# Altium integrated library Altera MAX V.IntLib: 184 symbols (part 14 of 16)
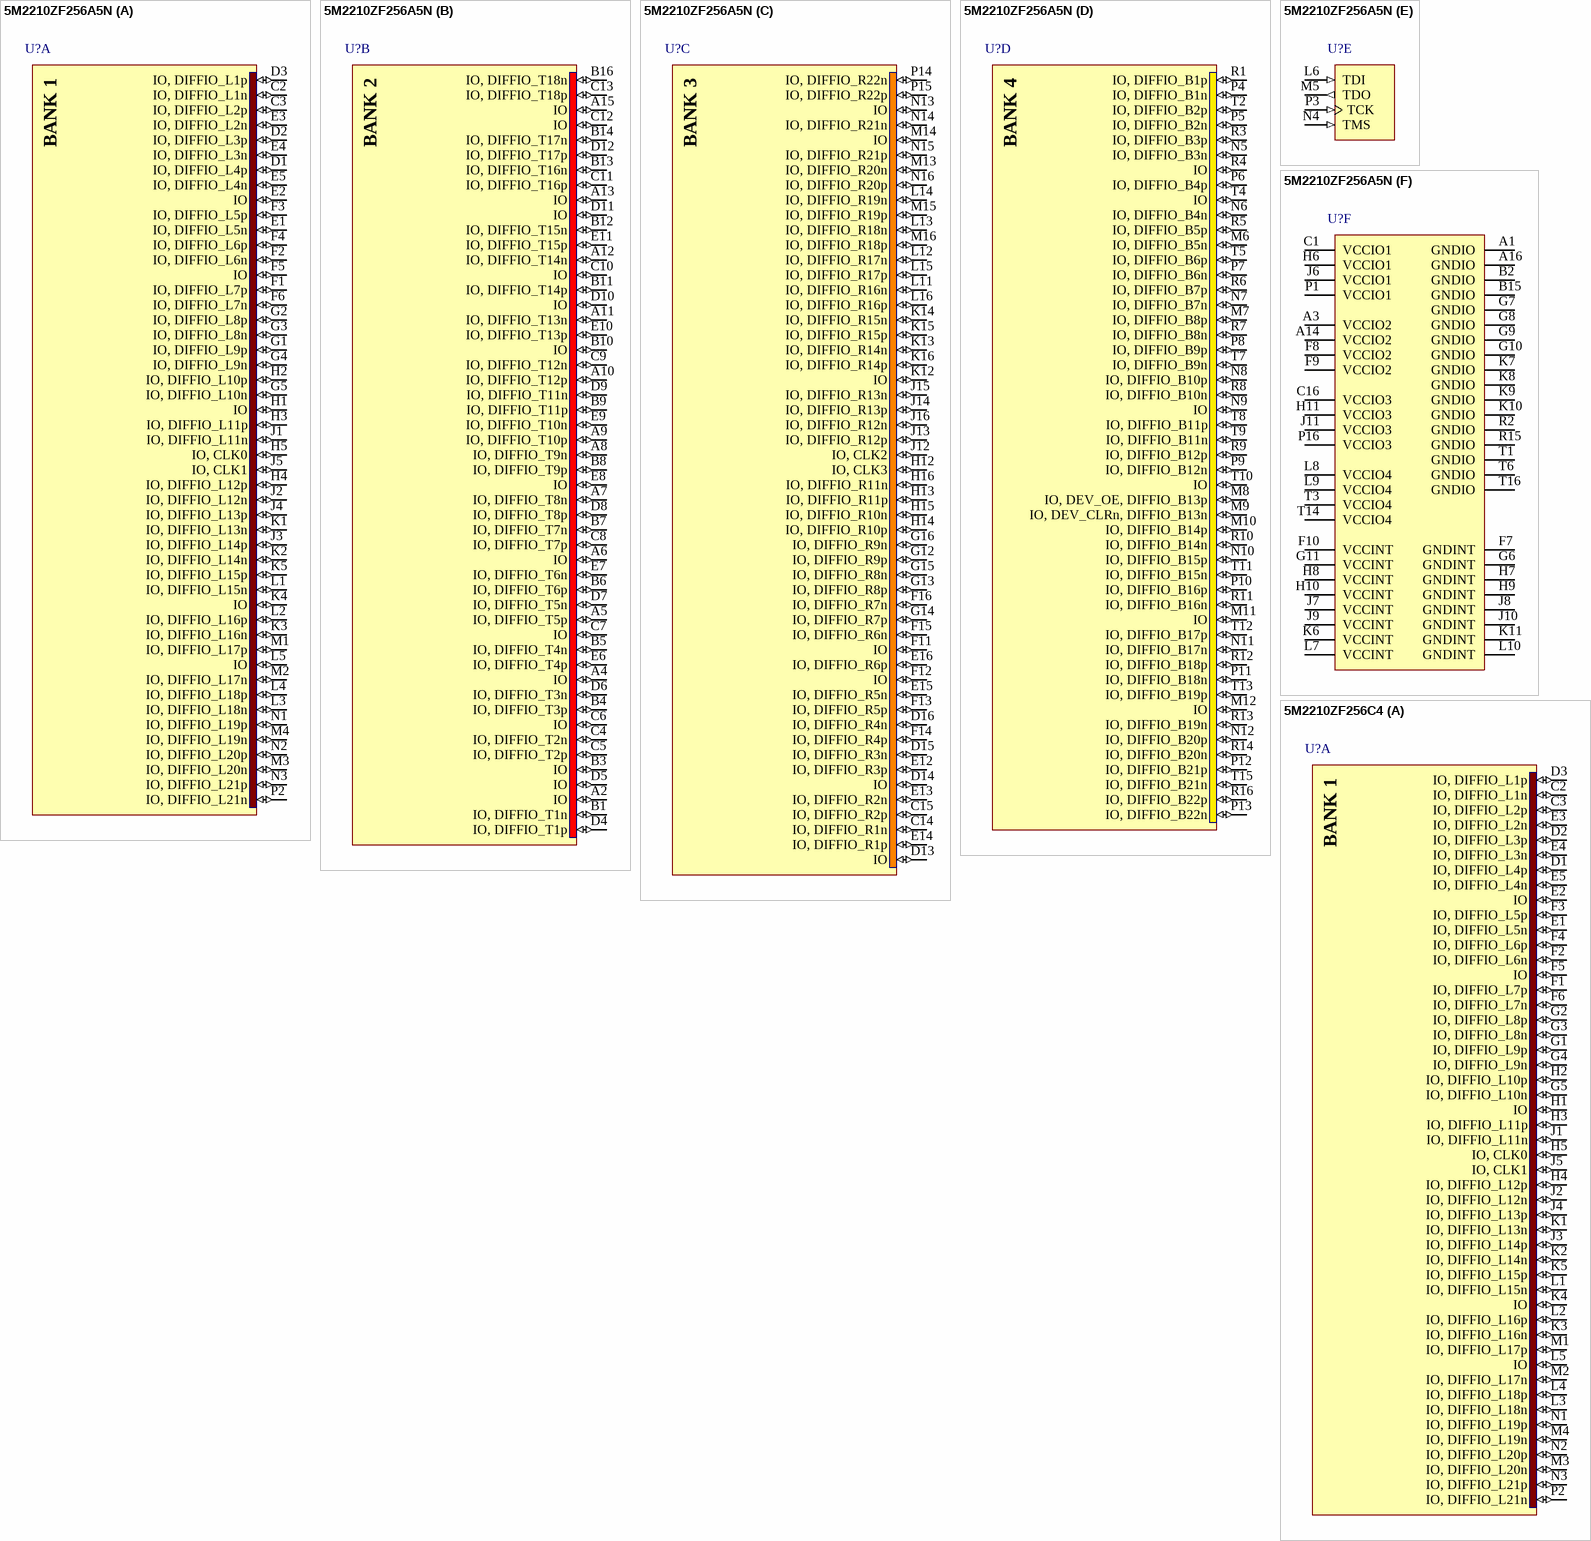
[diagram p90: symbols 5M2210ZF256A5N to 5M2210ZF256C4]

## 5M2210ZF256A5N
designator U?
MAX V 1.8V CPLD, 203 IOs, 2210 Logic Elements, 256-Pin FBGA, Automotive Temperature, Speed Grade 5, Pb-Free; DatasheetVersion: ver1.2, May-2011; PackageVersion: ver2.0, Nov-2011; PackageReference: FBGA256_A-155; PackageDescription: 256-Pin FineLine Ball-Grid Array (FBGA) - Thin - Wire Bond - A:1.55; Code_JEDEC: MO-192-DAF-1; ComponentLink1Description: Manufacturer URL; ComponentLink1URL: http://www.altera.com/; ComponentLink2Description: Datasheet; ComponentLink2URL: http://www.altera.com/literature/hb/max-v/max5_handbook.pdf; ComponentLink3Description: MAX V Device Pin-Out files; ComponentLink3URL: http://www.altera.com/literature/lit-dp.jsp?category=MAX%205&showspreadsheet=y; ComponentLink4Description: Package Specification; ComponentLink4URL: http://www.altera.com/devicepackaging/04R-00230_03.pdf
footprint FBGA256_A-155 (BGA, 256-Leads, Body 17x17mm, Pitch 1mm)
part A pins: C2 IO, DIFFIO_L1n (io), C3 IO, DIFFIO_L2p (io), D1 IO, DIFFIO_L4p (io), D2 IO, DIFFIO_L3p (io), D3 IO, DIFFIO_L1p (io), E1 IO, DIFFIO_L5n (io), E2 IO (io), E3 IO, DIFFIO_L2n (io), E4 IO, DIFFIO_L3n (io), E5 IO, DIFFIO_L4n (io), F1 IO, DIFFIO_L7p (io), F2 IO, DIFFIO_L6n (io), F3 IO, DIFFIO_L5p (io), F4 IO, DIFFIO_L6p (io), F5 IO (io), F6 IO, DIFFIO_L7n (io), G1 IO, DIFFIO_L9p (io), G2 IO, DIFFIO_L8p (io), G3 IO, DIFFIO_L8n (io), G4 IO, DIFFIO_L9n (io), G5 IO, DIFFIO_L10n (io), H1 IO (io), H2 IO, DIFFIO_L10p (io), H3 IO, DIFFIO_L11p (io), H4 IO, DIFFIO_L12p (io), H5 IO, CLK0 (io), J1 IO, DIFFIO_L11n (io), J2 IO, DIFFIO_L12n (io), J3 IO, DIFFIO_L14p (io), J4 IO, DIFFIO_L13p (io), J5 IO, CLK1 (io), K1 IO, DIFFIO_L13n (io), K2 IO, DIFFIO_L14n (io), K3 IO, DIFFIO_L16n (io), K4 IO (io), K5 IO, DIFFIO_L15p (io), L1 IO, DIFFIO_L15n (io), L2 IO, DIFFIO_L16p (io), L3 IO, DIFFIO_L18n (io), L4 IO, DIFFIO_L18p (io), L5 IO (io), M1 IO, DIFFIO_L17p (io), M2 IO, DIFFIO_L17n (io), M3 IO, DIFFIO_L20n (io), M4 IO, DIFFIO_L19n (io), N1 IO, DIFFIO_L19p (io), N2 IO, DIFFIO_L20p (io), N3 IO, DIFFIO_L21p (io), P2 IO, DIFFIO_L21n (io)
part B pins: A2 IO (io), A4 IO (io), A5 IO, DIFFIO_T5p (io), A6 IO (io), A7 IO, DIFFIO_T8n (io), A8 IO, DIFFIO_T9n (io), A9 IO, DIFFIO_T10p (io), A10 IO, DIFFIO_T12p (io), A11 IO, DIFFIO_T13n (io), A12 IO, DIFFIO_T14n (io), A13 IO (io), A15 IO (io), B1 IO, DIFFIO_T1n (io), B3 IO (io), B4 IO, DIFFIO_T3p (io), B5 IO, DIFFIO_T4n (io), B6 IO, DIFFIO_T6p (io), B7 IO, DIFFIO_T7n (io), B8 IO, DIFFIO_T9p (io), B9 IO, DIFFIO_T11p (io), B10 IO (io), B11 IO, DIFFIO_T14p (io), B12 IO, DIFFIO_T15n (io), B13 IO, DIFFIO_T16n (io), B14 IO, DIFFIO_T17n (io), B16 IO, DIFFIO_T18n (io), C4 IO, DIFFIO_T2n (io), C5 IO, DIFFIO_T2p (io), C6 IO (io), C7 IO (io), C8 IO, DIFFIO_T7p (io), C9 IO, DIFFIO_T12n (io), C10 IO (io), C11 IO, DIFFIO_T16p (io), C12 IO (io), C13 IO, DIFFIO_T18p (io), D4 IO, DIFFIO_T1p (io), D5 IO (io), D6 IO, DIFFIO_T3n (io), D7 IO, DIFFIO_T5n (io), D8 IO, DIFFIO_T8p (io), D9 IO, DIFFIO_T11n (io), D10 IO (io), D11 IO (io), D12 IO, DIFFIO_T17p (io), E6 IO, DIFFIO_T4p (io), E7 IO, DIFFIO_T6n (io), E8 IO (io), E9 IO, DIFFIO_T10n (io), E10 IO, DIFFIO_T13p (io), E11 IO, DIFFIO_T15p (io)
part C pins: C14 IO, DIFFIO_R1n (io), C15 IO, DIFFIO_R2p (io), D13 IO (io), D14 IO (io), D15 IO, DIFFIO_R3n (io), D16 IO, DIFFIO_R4n (io), E12 IO, DIFFIO_R3p (io), E13 IO, DIFFIO_R2n (io), E14 IO, DIFFIO_R1p (io), E15 IO, DIFFIO_R5n (io), E16 IO, DIFFIO_R6p (io), F11 IO (io), F12 IO (io), F13 IO, DIFFIO_R5p (io), F14 IO, DIFFIO_R4p (io), F15 IO, DIFFIO_R6n (io), F16 IO, DIFFIO_R7n (io), G12 IO, DIFFIO_R9p (io), G13 IO, DIFFIO_R8p (io), G14 IO, DIFFIO_R7p (io), G15 IO, DIFFIO_R8n (io), G16 IO, DIFFIO_R9n (io), H12 IO, CLK3 (io), H13 IO, DIFFIO_R11p (io), H14 IO, DIFFIO_R10p (io), H15 IO, DIFFIO_R10n (io), H16 IO, DIFFIO_R11n (io), J12 IO, CLK2 (io), J13 IO, DIFFIO_R12p (io), J14 IO, DIFFIO_R13p (io), J15 IO, DIFFIO_R13n (io), J16 IO, DIFFIO_R12n (io), K12 IO (io), K13 IO, DIFFIO_R14n (io), K14 IO, DIFFIO_R15n (io), K15 IO, DIFFIO_R15p (io), K16 IO, DIFFIO_R14p (io), L11 IO, DIFFIO_R16n (io), L12 IO, DIFFIO_R17n (io), L13 IO, DIFFIO_R18n (io), L14 IO, DIFFIO_R19n (io), L15 IO, DIFFIO_R17p (io), L16 IO, DIFFIO_R16p (io), M13 IO, DIFFIO_R20n (io), M14 IO (io), M15 IO, DIFFIO_R19p (io), M16 IO, DIFFIO_R18p (io), N13 IO (io), N14 IO, DIFFIO_R21n (io), N15 IO, DIFFIO_R21p (io), N16 IO, DIFFIO_R20p (io), P14 IO, DIFFIO_R22n (io), P15 IO, DIFFIO_R22p (io)
part D pins: M6 IO, DIFFIO_B5n (io), M7 IO, DIFFIO_B8p (io), M8 IO, DEV_OE, DIFFIO_B13p (io), M9 IO, DEV_CLRn, DIFFIO_B13n (io), M10 IO, DIFFIO_B14p (io), M11 IO (io), M12 IO (io), N5 IO, DIFFIO_B3n (io), N6 IO, DIFFIO_B4n (io), N7 IO, DIFFIO_B7n (io), N8 IO, DIFFIO_B10p (io), N9 IO (io), N10 IO, DIFFIO_B15p (io), N11 IO, DIFFIO_B17n (io), N12 IO, DIFFIO_B20p (io), P4 IO, DIFFIO_B1n (io), P5 IO, DIFFIO_B2n (io), P6 IO, DIFFIO_B4p (io), P7 IO, DIFFIO_B6n (io), P8 IO, DIFFIO_B9p (io), P9 IO, DIFFIO_B12n (io), P10 IO, DIFFIO_B16p (io), P11 IO, DIFFIO_B18n (io), P12 IO, DIFFIO_B21p (io), P13 IO, DIFFIO_B22n (io), R1 IO, DIFFIO_B1p (io), R3 IO, DIFFIO_B3p (io), R4 IO (io), R5 IO, DIFFIO_B5p (io), R6 IO, DIFFIO_B7p (io), R7 IO, DIFFIO_B8n (io), R8 IO, DIFFIO_B10n (io), R9 IO, DIFFIO_B12p (io), R10 IO, DIFFIO_B14n (io), R11 IO, DIFFIO_B16n (io), R12 IO, DIFFIO_B18p (io), R13 IO, DIFFIO_B19n (io), R14 IO, DIFFIO_B20n (io), R16 IO, DIFFIO_B22p (io), T2 IO, DIFFIO_B2p (io), T4 IO (io), T5 IO, DIFFIO_B6p (io), T7 IO, DIFFIO_B9n (io), T8 IO, DIFFIO_B11p (io), T9 IO, DIFFIO_B11n (io), T10 IO (io), T11 IO, DIFFIO_B15n (io), T12 IO, DIFFIO_B17p (io), T13 IO, DIFFIO_B19p (io), T15 IO, DIFFIO_B21n (io)
part E pins: L6 TDI (in), M5 TDO (out), N4 TMS (in), P3 TCK (in)
part F pins: A1 GNDIO (power), A3 VCCIO2 (power), A14 VCCIO2 (power), A16 GNDIO (power), B2 GNDIO (power), B15 GNDIO (power), C1 VCCIO1 (power), C16 VCCIO3 (power), F7 GNDINT (power), F8 VCCIO2 (power), F9 VCCIO2 (power), F10 VCCINT (power), G6 GNDINT (power), G7 GNDIO (power), G8 GNDIO (power), G9 GNDIO (power), G10 GNDIO (power), G11 VCCINT (power), H6 VCCIO1 (power), H7 GNDINT (power), H8 VCCINT (power), H9 GNDINT (power), H10 VCCINT (power), H11 VCCIO3 (power), J6 VCCIO1 (power), J7 VCCINT (power), J8 GNDINT (power), J9 VCCINT (power), J10 GNDINT (power), J11 VCCIO3 (power), K6 VCCINT (power), K7 GNDIO (power), K8 GNDIO (power), K9 GNDIO (power), K10 GNDIO (power), K11 GNDINT (power), L7 VCCINT (power), L8 VCCIO4 (power), L9 VCCIO4 (power), L10 GNDINT (power), P1 VCCIO1 (power), P16 VCCIO3 (power), R2 GNDIO (power), R15 GNDIO (power), T1 GNDIO (power), T3 VCCIO4 (power), T6 GNDIO (power), T14 VCCIO4 (power), T16 GNDIO (power)
part A text: BANK 1
part B text: BANK 2
part C text: BANK 3
part D text: BANK 4

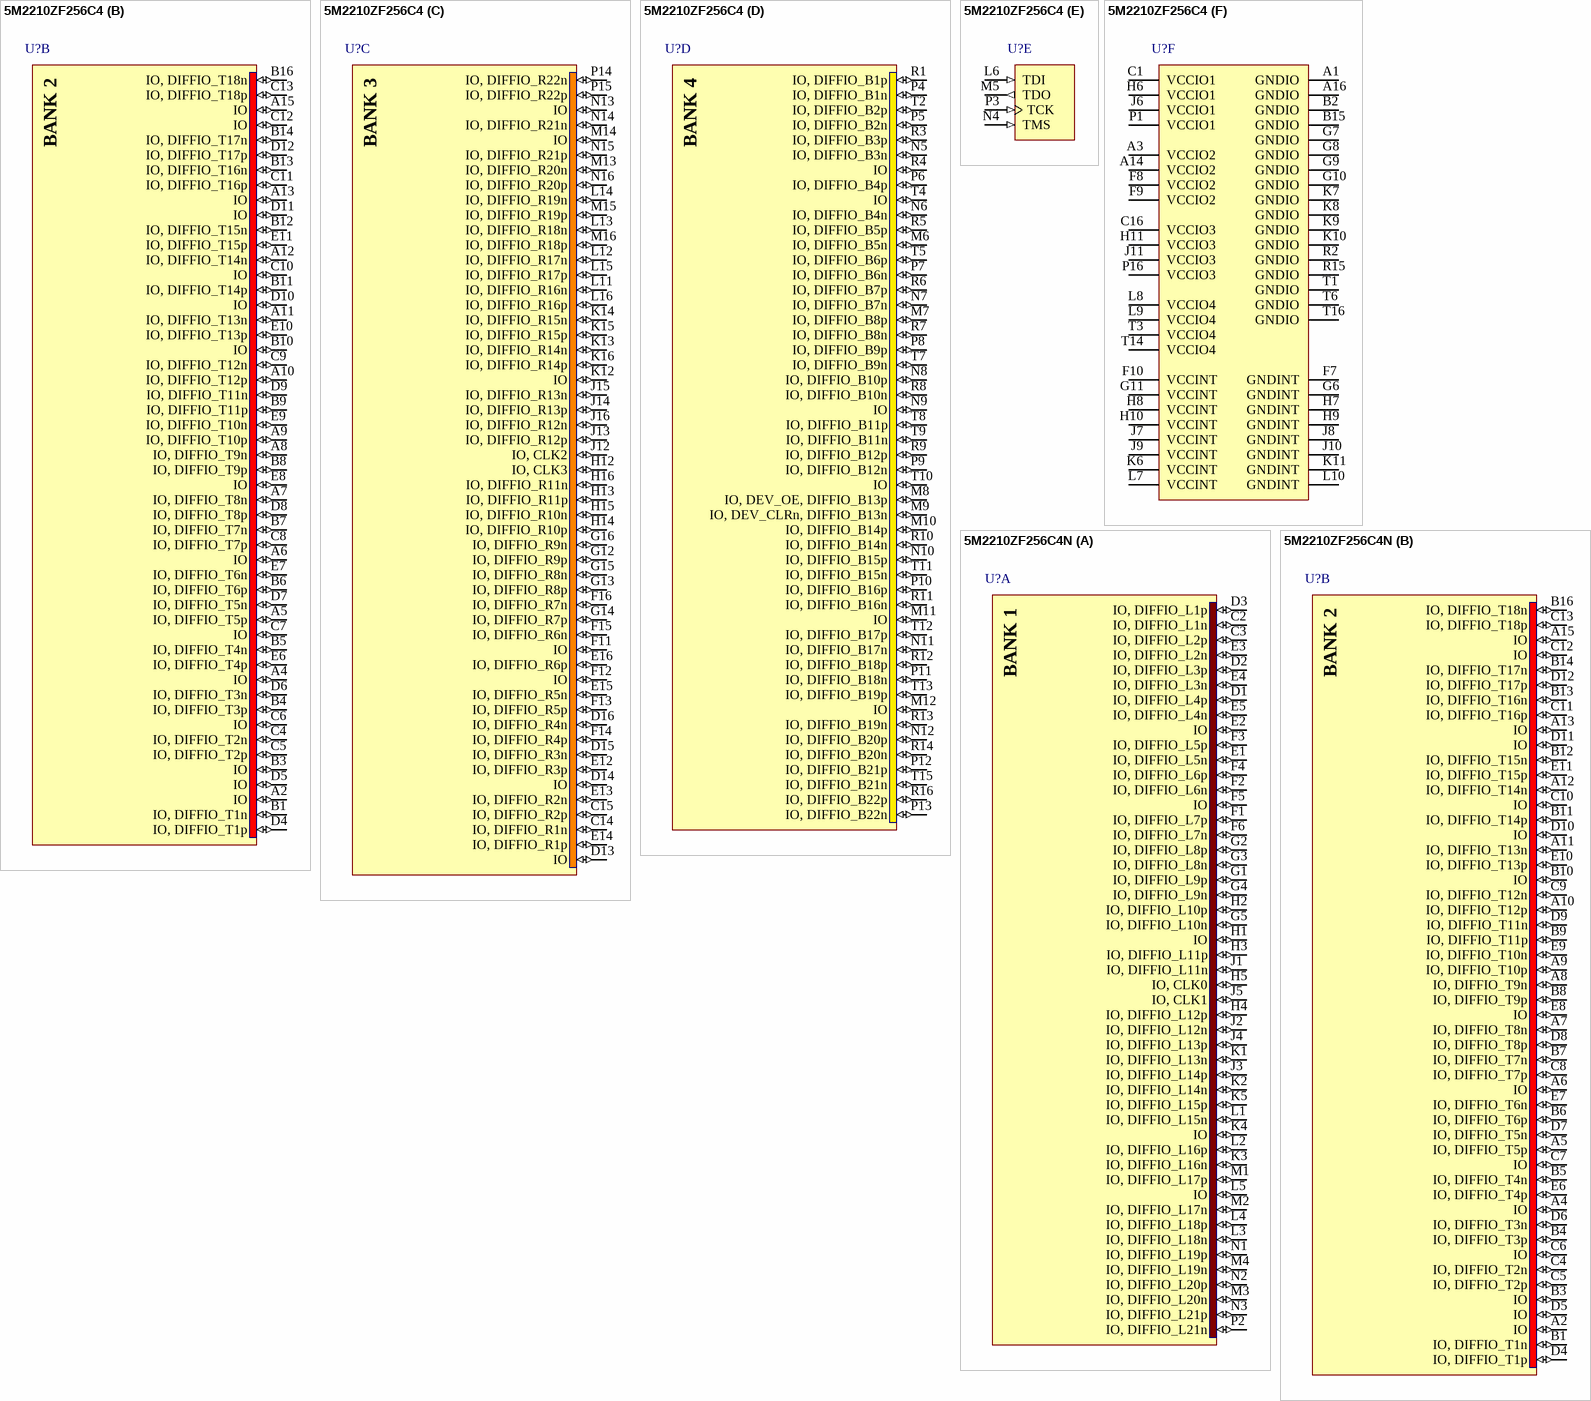
[diagram p64: symbols 5M2210ZF256C4 to 5M2210ZF256C4N]

## 5M2210ZF256C4
designator U?
MAX V 1.8V CPLD, 203 IOs, 2210 Logic Elements, 256-Pin FBGA, Commercial Temperature, Speed Grade 4; DatasheetVersion: ver1.2, May-2011; PackageVersion: ver2.0, Nov-2011; PackageReference: FBGA256_A-155; PackageDescription: 256-Pin FineLine Ball-Grid Array (FBGA) - Thin - Wire Bond - A:1.55; Code_JEDEC: MO-192-DAF-1; ComponentLink1Description: Manufacturer URL; ComponentLink1URL: http://www.altera.com/; ComponentLink2Description: Datasheet; ComponentLink2URL: http://www.altera.com/literature/hb/max-v/max5_handbook.pdf; ComponentLink3Description: MAX V Device Pin-Out files; ComponentLink3URL: http://www.altera.com/literature/lit-dp.jsp?category=MAX%205&showspreadsheet=y; ComponentLink4Description: Package Specification; ComponentLink4URL: http://www.altera.com/devicepackaging/04R-00230_03.pdf
footprint FBGA256_A-155 (BGA, 256-Leads, Body 17x17mm, Pitch 1mm)
part A pins: C2 IO, DIFFIO_L1n (io), C3 IO, DIFFIO_L2p (io), D1 IO, DIFFIO_L4p (io), D2 IO, DIFFIO_L3p (io), D3 IO, DIFFIO_L1p (io), E1 IO, DIFFIO_L5n (io), E2 IO (io), E3 IO, DIFFIO_L2n (io), E4 IO, DIFFIO_L3n (io), E5 IO, DIFFIO_L4n (io), F1 IO, DIFFIO_L7p (io), F2 IO, DIFFIO_L6n (io), F3 IO, DIFFIO_L5p (io), F4 IO, DIFFIO_L6p (io), F5 IO (io), F6 IO, DIFFIO_L7n (io), G1 IO, DIFFIO_L9p (io), G2 IO, DIFFIO_L8p (io), G3 IO, DIFFIO_L8n (io), G4 IO, DIFFIO_L9n (io), G5 IO, DIFFIO_L10n (io), H1 IO (io), H2 IO, DIFFIO_L10p (io), H3 IO, DIFFIO_L11p (io), H4 IO, DIFFIO_L12p (io), H5 IO, CLK0 (io), J1 IO, DIFFIO_L11n (io), J2 IO, DIFFIO_L12n (io), J3 IO, DIFFIO_L14p (io), J4 IO, DIFFIO_L13p (io), J5 IO, CLK1 (io), K1 IO, DIFFIO_L13n (io), K2 IO, DIFFIO_L14n (io), K3 IO, DIFFIO_L16n (io), K4 IO (io), K5 IO, DIFFIO_L15p (io), L1 IO, DIFFIO_L15n (io), L2 IO, DIFFIO_L16p (io), L3 IO, DIFFIO_L18n (io), L4 IO, DIFFIO_L18p (io), L5 IO (io), M1 IO, DIFFIO_L17p (io), M2 IO, DIFFIO_L17n (io), M3 IO, DIFFIO_L20n (io), M4 IO, DIFFIO_L19n (io), N1 IO, DIFFIO_L19p (io), N2 IO, DIFFIO_L20p (io), N3 IO, DIFFIO_L21p (io), P2 IO, DIFFIO_L21n (io)
part B pins: A2 IO (io), A4 IO (io), A5 IO, DIFFIO_T5p (io), A6 IO (io), A7 IO, DIFFIO_T8n (io), A8 IO, DIFFIO_T9n (io), A9 IO, DIFFIO_T10p (io), A10 IO, DIFFIO_T12p (io), A11 IO, DIFFIO_T13n (io), A12 IO, DIFFIO_T14n (io), A13 IO (io), A15 IO (io), B1 IO, DIFFIO_T1n (io), B3 IO (io), B4 IO, DIFFIO_T3p (io), B5 IO, DIFFIO_T4n (io), B6 IO, DIFFIO_T6p (io), B7 IO, DIFFIO_T7n (io), B8 IO, DIFFIO_T9p (io), B9 IO, DIFFIO_T11p (io), B10 IO (io), B11 IO, DIFFIO_T14p (io), B12 IO, DIFFIO_T15n (io), B13 IO, DIFFIO_T16n (io), B14 IO, DIFFIO_T17n (io), B16 IO, DIFFIO_T18n (io), C4 IO, DIFFIO_T2n (io), C5 IO, DIFFIO_T2p (io), C6 IO (io), C7 IO (io), C8 IO, DIFFIO_T7p (io), C9 IO, DIFFIO_T12n (io), C10 IO (io), C11 IO, DIFFIO_T16p (io), C12 IO (io), C13 IO, DIFFIO_T18p (io), D4 IO, DIFFIO_T1p (io), D5 IO (io), D6 IO, DIFFIO_T3n (io), D7 IO, DIFFIO_T5n (io), D8 IO, DIFFIO_T8p (io), D9 IO, DIFFIO_T11n (io), D10 IO (io), D11 IO (io), D12 IO, DIFFIO_T17p (io), E6 IO, DIFFIO_T4p (io), E7 IO, DIFFIO_T6n (io), E8 IO (io), E9 IO, DIFFIO_T10n (io), E10 IO, DIFFIO_T13p (io), E11 IO, DIFFIO_T15p (io)
part C pins: C14 IO, DIFFIO_R1n (io), C15 IO, DIFFIO_R2p (io), D13 IO (io), D14 IO (io), D15 IO, DIFFIO_R3n (io), D16 IO, DIFFIO_R4n (io), E12 IO, DIFFIO_R3p (io), E13 IO, DIFFIO_R2n (io), E14 IO, DIFFIO_R1p (io), E15 IO, DIFFIO_R5n (io), E16 IO, DIFFIO_R6p (io), F11 IO (io), F12 IO (io), F13 IO, DIFFIO_R5p (io), F14 IO, DIFFIO_R4p (io), F15 IO, DIFFIO_R6n (io), F16 IO, DIFFIO_R7n (io), G12 IO, DIFFIO_R9p (io), G13 IO, DIFFIO_R8p (io), G14 IO, DIFFIO_R7p (io), G15 IO, DIFFIO_R8n (io), G16 IO, DIFFIO_R9n (io), H12 IO, CLK3 (io), H13 IO, DIFFIO_R11p (io), H14 IO, DIFFIO_R10p (io), H15 IO, DIFFIO_R10n (io), H16 IO, DIFFIO_R11n (io), J12 IO, CLK2 (io), J13 IO, DIFFIO_R12p (io), J14 IO, DIFFIO_R13p (io), J15 IO, DIFFIO_R13n (io), J16 IO, DIFFIO_R12n (io), K12 IO (io), K13 IO, DIFFIO_R14n (io), K14 IO, DIFFIO_R15n (io), K15 IO, DIFFIO_R15p (io), K16 IO, DIFFIO_R14p (io), L11 IO, DIFFIO_R16n (io), L12 IO, DIFFIO_R17n (io), L13 IO, DIFFIO_R18n (io), L14 IO, DIFFIO_R19n (io), L15 IO, DIFFIO_R17p (io), L16 IO, DIFFIO_R16p (io), M13 IO, DIFFIO_R20n (io), M14 IO (io), M15 IO, DIFFIO_R19p (io), M16 IO, DIFFIO_R18p (io), N13 IO (io), N14 IO, DIFFIO_R21n (io), N15 IO, DIFFIO_R21p (io), N16 IO, DIFFIO_R20p (io), P14 IO, DIFFIO_R22n (io), P15 IO, DIFFIO_R22p (io)
part D pins: M6 IO, DIFFIO_B5n (io), M7 IO, DIFFIO_B8p (io), M8 IO, DEV_OE, DIFFIO_B13p (io), M9 IO, DEV_CLRn, DIFFIO_B13n (io), M10 IO, DIFFIO_B14p (io), M11 IO (io), M12 IO (io), N5 IO, DIFFIO_B3n (io), N6 IO, DIFFIO_B4n (io), N7 IO, DIFFIO_B7n (io), N8 IO, DIFFIO_B10p (io), N9 IO (io), N10 IO, DIFFIO_B15p (io), N11 IO, DIFFIO_B17n (io), N12 IO, DIFFIO_B20p (io), P4 IO, DIFFIO_B1n (io), P5 IO, DIFFIO_B2n (io), P6 IO, DIFFIO_B4p (io), P7 IO, DIFFIO_B6n (io), P8 IO, DIFFIO_B9p (io), P9 IO, DIFFIO_B12n (io), P10 IO, DIFFIO_B16p (io), P11 IO, DIFFIO_B18n (io), P12 IO, DIFFIO_B21p (io), P13 IO, DIFFIO_B22n (io), R1 IO, DIFFIO_B1p (io), R3 IO, DIFFIO_B3p (io), R4 IO (io), R5 IO, DIFFIO_B5p (io), R6 IO, DIFFIO_B7p (io), R7 IO, DIFFIO_B8n (io), R8 IO, DIFFIO_B10n (io), R9 IO, DIFFIO_B12p (io), R10 IO, DIFFIO_B14n (io), R11 IO, DIFFIO_B16n (io), R12 IO, DIFFIO_B18p (io), R13 IO, DIFFIO_B19n (io), R14 IO, DIFFIO_B20n (io), R16 IO, DIFFIO_B22p (io), T2 IO, DIFFIO_B2p (io), T4 IO (io), T5 IO, DIFFIO_B6p (io), T7 IO, DIFFIO_B9n (io), T8 IO, DIFFIO_B11p (io), T9 IO, DIFFIO_B11n (io), T10 IO (io), T11 IO, DIFFIO_B15n (io), T12 IO, DIFFIO_B17p (io), T13 IO, DIFFIO_B19p (io), T15 IO, DIFFIO_B21n (io)
part E pins: L6 TDI (in), M5 TDO (out), N4 TMS (in), P3 TCK (in)
part F pins: A1 GNDIO (power), A3 VCCIO2 (power), A14 VCCIO2 (power), A16 GNDIO (power), B2 GNDIO (power), B15 GNDIO (power), C1 VCCIO1 (power), C16 VCCIO3 (power), F7 GNDINT (power), F8 VCCIO2 (power), F9 VCCIO2 (power), F10 VCCINT (power), G6 GNDINT (power), G7 GNDIO (power), G8 GNDIO (power), G9 GNDIO (power), G10 GNDIO (power), G11 VCCINT (power), H6 VCCIO1 (power), H7 GNDINT (power), H8 VCCINT (power), H9 GNDINT (power), H10 VCCINT (power), H11 VCCIO3 (power), J6 VCCIO1 (power), J7 VCCINT (power), J8 GNDINT (power), J9 VCCINT (power), J10 GNDINT (power), J11 VCCIO3 (power), K6 VCCINT (power), K7 GNDIO (power), K8 GNDIO (power), K9 GNDIO (power), K10 GNDIO (power), K11 GNDINT (power), L7 VCCINT (power), L8 VCCIO4 (power), L9 VCCIO4 (power), L10 GNDINT (power), P1 VCCIO1 (power), P16 VCCIO3 (power), R2 GNDIO (power), R15 GNDIO (power), T1 GNDIO (power), T3 VCCIO4 (power), T6 GNDIO (power), T14 VCCIO4 (power), T16 GNDIO (power)
part A text: BANK 1
part B text: BANK 2
part C text: BANK 3
part D text: BANK 4

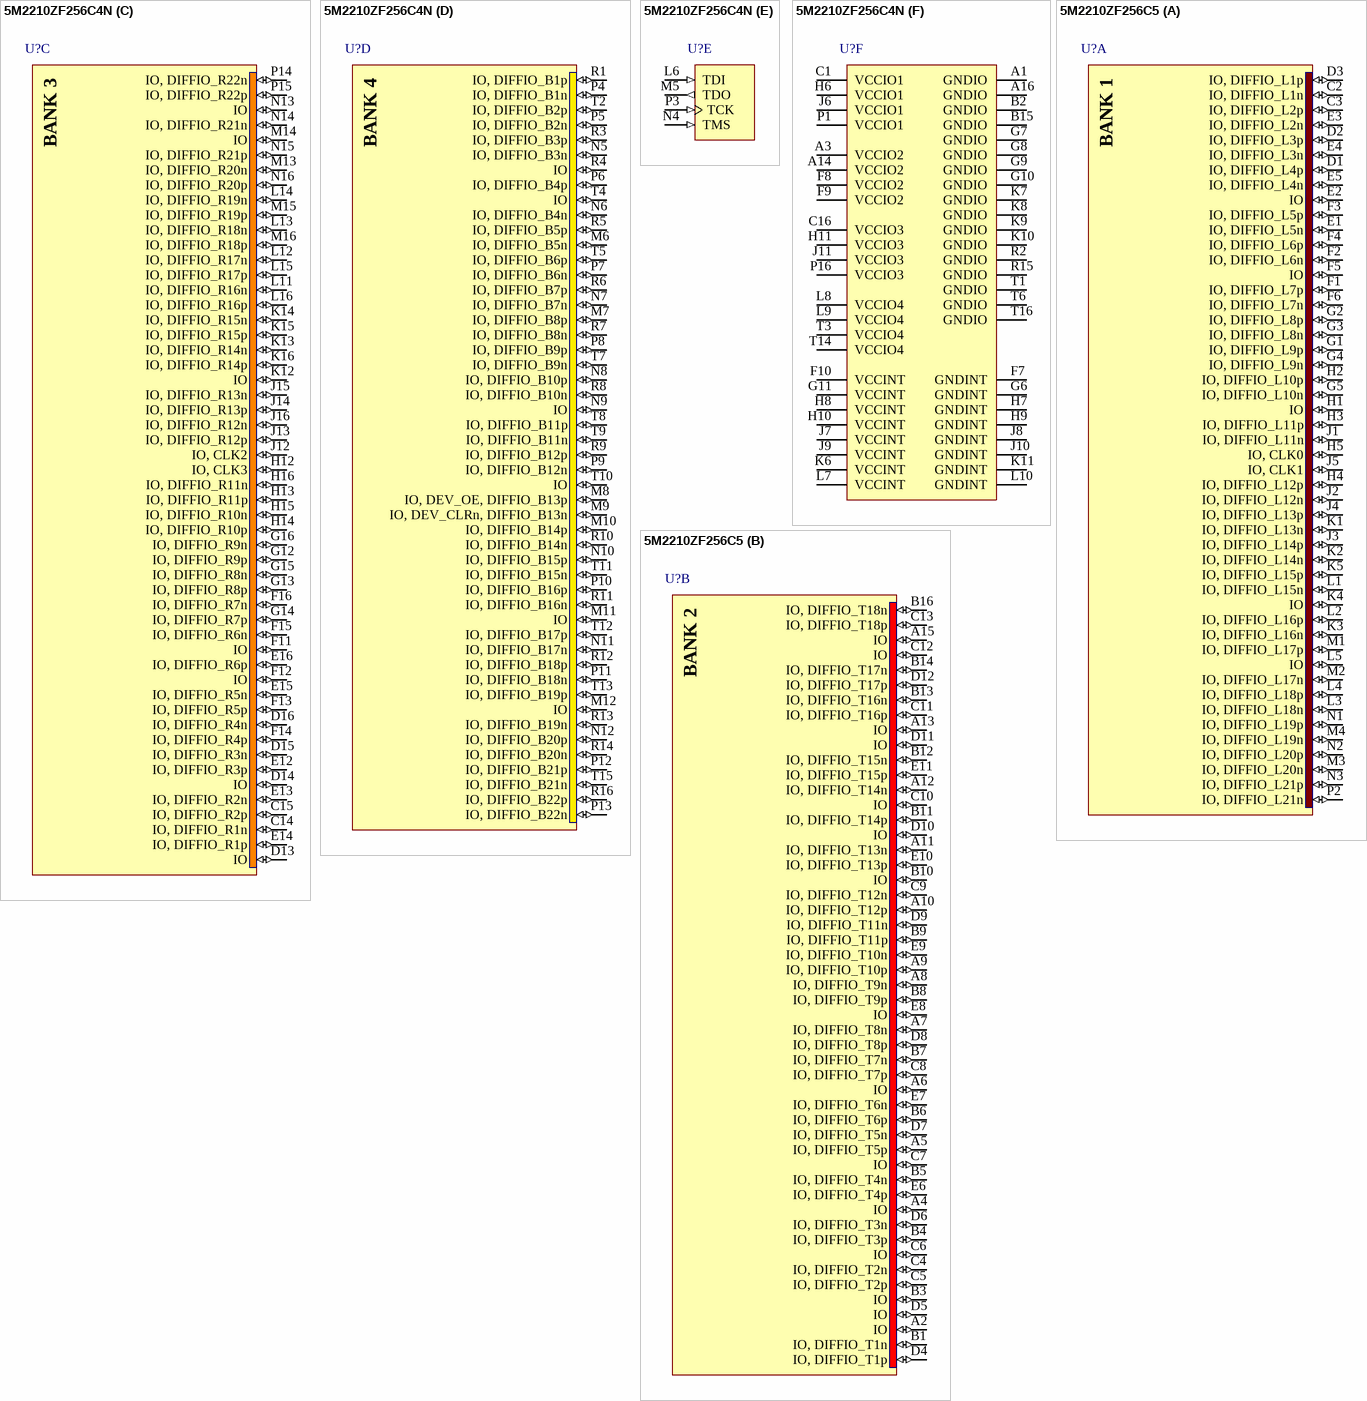
[diagram p65: symbols 5M2210ZF256C4N to 5M2210ZF256C5]

## 5M2210ZF256C4N
designator U?
MAX V 1.8V CPLD, 203 IOs, 2210 Logic Elements, 256-Pin FBGA, Commercial Temperature, Speed Grade 4, Pb-Free; DatasheetVersion: ver1.2, May-2011; PackageVersion: ver2.0, Nov-2011; PackageReference: FBGA256_A-155; PackageDescription: 256-Pin FineLine Ball-Grid Array (FBGA) - Thin - Wire Bond - A:1.55; Code_JEDEC: MO-192-DAF-1; ComponentLink1Description: Manufacturer URL; ComponentLink1URL: http://www.altera.com/; ComponentLink2Description: Datasheet; ComponentLink2URL: http://www.altera.com/literature/hb/max-v/max5_handbook.pdf; ComponentLink3Description: MAX V Device Pin-Out files; ComponentLink3URL: http://www.altera.com/literature/lit-dp.jsp?category=MAX%205&showspreadsheet=y; ComponentLink4Description: Package Specification; ComponentLink4URL: http://www.altera.com/devicepackaging/04R-00230_03.pdf
footprint FBGA256_A-155 (BGA, 256-Leads, Body 17x17mm, Pitch 1mm)
part A pins: C2 IO, DIFFIO_L1n (io), C3 IO, DIFFIO_L2p (io), D1 IO, DIFFIO_L4p (io), D2 IO, DIFFIO_L3p (io), D3 IO, DIFFIO_L1p (io), E1 IO, DIFFIO_L5n (io), E2 IO (io), E3 IO, DIFFIO_L2n (io), E4 IO, DIFFIO_L3n (io), E5 IO, DIFFIO_L4n (io), F1 IO, DIFFIO_L7p (io), F2 IO, DIFFIO_L6n (io), F3 IO, DIFFIO_L5p (io), F4 IO, DIFFIO_L6p (io), F5 IO (io), F6 IO, DIFFIO_L7n (io), G1 IO, DIFFIO_L9p (io), G2 IO, DIFFIO_L8p (io), G3 IO, DIFFIO_L8n (io), G4 IO, DIFFIO_L9n (io), G5 IO, DIFFIO_L10n (io), H1 IO (io), H2 IO, DIFFIO_L10p (io), H3 IO, DIFFIO_L11p (io), H4 IO, DIFFIO_L12p (io), H5 IO, CLK0 (io), J1 IO, DIFFIO_L11n (io), J2 IO, DIFFIO_L12n (io), J3 IO, DIFFIO_L14p (io), J4 IO, DIFFIO_L13p (io), J5 IO, CLK1 (io), K1 IO, DIFFIO_L13n (io), K2 IO, DIFFIO_L14n (io), K3 IO, DIFFIO_L16n (io), K4 IO (io), K5 IO, DIFFIO_L15p (io), L1 IO, DIFFIO_L15n (io), L2 IO, DIFFIO_L16p (io), L3 IO, DIFFIO_L18n (io), L4 IO, DIFFIO_L18p (io), L5 IO (io), M1 IO, DIFFIO_L17p (io), M2 IO, DIFFIO_L17n (io), M3 IO, DIFFIO_L20n (io), M4 IO, DIFFIO_L19n (io), N1 IO, DIFFIO_L19p (io), N2 IO, DIFFIO_L20p (io), N3 IO, DIFFIO_L21p (io), P2 IO, DIFFIO_L21n (io)
part B pins: A2 IO (io), A4 IO (io), A5 IO, DIFFIO_T5p (io), A6 IO (io), A7 IO, DIFFIO_T8n (io), A8 IO, DIFFIO_T9n (io), A9 IO, DIFFIO_T10p (io), A10 IO, DIFFIO_T12p (io), A11 IO, DIFFIO_T13n (io), A12 IO, DIFFIO_T14n (io), A13 IO (io), A15 IO (io), B1 IO, DIFFIO_T1n (io), B3 IO (io), B4 IO, DIFFIO_T3p (io), B5 IO, DIFFIO_T4n (io), B6 IO, DIFFIO_T6p (io), B7 IO, DIFFIO_T7n (io), B8 IO, DIFFIO_T9p (io), B9 IO, DIFFIO_T11p (io), B10 IO (io), B11 IO, DIFFIO_T14p (io), B12 IO, DIFFIO_T15n (io), B13 IO, DIFFIO_T16n (io), B14 IO, DIFFIO_T17n (io), B16 IO, DIFFIO_T18n (io), C4 IO, DIFFIO_T2n (io), C5 IO, DIFFIO_T2p (io), C6 IO (io), C7 IO (io), C8 IO, DIFFIO_T7p (io), C9 IO, DIFFIO_T12n (io), C10 IO (io), C11 IO, DIFFIO_T16p (io), C12 IO (io), C13 IO, DIFFIO_T18p (io), D4 IO, DIFFIO_T1p (io), D5 IO (io), D6 IO, DIFFIO_T3n (io), D7 IO, DIFFIO_T5n (io), D8 IO, DIFFIO_T8p (io), D9 IO, DIFFIO_T11n (io), D10 IO (io), D11 IO (io), D12 IO, DIFFIO_T17p (io), E6 IO, DIFFIO_T4p (io), E7 IO, DIFFIO_T6n (io), E8 IO (io), E9 IO, DIFFIO_T10n (io), E10 IO, DIFFIO_T13p (io), E11 IO, DIFFIO_T15p (io)
part C pins: C14 IO, DIFFIO_R1n (io), C15 IO, DIFFIO_R2p (io), D13 IO (io), D14 IO (io), D15 IO, DIFFIO_R3n (io), D16 IO, DIFFIO_R4n (io), E12 IO, DIFFIO_R3p (io), E13 IO, DIFFIO_R2n (io), E14 IO, DIFFIO_R1p (io), E15 IO, DIFFIO_R5n (io), E16 IO, DIFFIO_R6p (io), F11 IO (io), F12 IO (io), F13 IO, DIFFIO_R5p (io), F14 IO, DIFFIO_R4p (io), F15 IO, DIFFIO_R6n (io), F16 IO, DIFFIO_R7n (io), G12 IO, DIFFIO_R9p (io), G13 IO, DIFFIO_R8p (io), G14 IO, DIFFIO_R7p (io), G15 IO, DIFFIO_R8n (io), G16 IO, DIFFIO_R9n (io), H12 IO, CLK3 (io), H13 IO, DIFFIO_R11p (io), H14 IO, DIFFIO_R10p (io), H15 IO, DIFFIO_R10n (io), H16 IO, DIFFIO_R11n (io), J12 IO, CLK2 (io), J13 IO, DIFFIO_R12p (io), J14 IO, DIFFIO_R13p (io), J15 IO, DIFFIO_R13n (io), J16 IO, DIFFIO_R12n (io), K12 IO (io), K13 IO, DIFFIO_R14n (io), K14 IO, DIFFIO_R15n (io), K15 IO, DIFFIO_R15p (io), K16 IO, DIFFIO_R14p (io), L11 IO, DIFFIO_R16n (io), L12 IO, DIFFIO_R17n (io), L13 IO, DIFFIO_R18n (io), L14 IO, DIFFIO_R19n (io), L15 IO, DIFFIO_R17p (io), L16 IO, DIFFIO_R16p (io), M13 IO, DIFFIO_R20n (io), M14 IO (io), M15 IO, DIFFIO_R19p (io), M16 IO, DIFFIO_R18p (io), N13 IO (io), N14 IO, DIFFIO_R21n (io), N15 IO, DIFFIO_R21p (io), N16 IO, DIFFIO_R20p (io), P14 IO, DIFFIO_R22n (io), P15 IO, DIFFIO_R22p (io)
part D pins: M6 IO, DIFFIO_B5n (io), M7 IO, DIFFIO_B8p (io), M8 IO, DEV_OE, DIFFIO_B13p (io), M9 IO, DEV_CLRn, DIFFIO_B13n (io), M10 IO, DIFFIO_B14p (io), M11 IO (io), M12 IO (io), N5 IO, DIFFIO_B3n (io), N6 IO, DIFFIO_B4n (io), N7 IO, DIFFIO_B7n (io), N8 IO, DIFFIO_B10p (io), N9 IO (io), N10 IO, DIFFIO_B15p (io), N11 IO, DIFFIO_B17n (io), N12 IO, DIFFIO_B20p (io), P4 IO, DIFFIO_B1n (io), P5 IO, DIFFIO_B2n (io), P6 IO, DIFFIO_B4p (io), P7 IO, DIFFIO_B6n (io), P8 IO, DIFFIO_B9p (io), P9 IO, DIFFIO_B12n (io), P10 IO, DIFFIO_B16p (io), P11 IO, DIFFIO_B18n (io), P12 IO, DIFFIO_B21p (io), P13 IO, DIFFIO_B22n (io), R1 IO, DIFFIO_B1p (io), R3 IO, DIFFIO_B3p (io), R4 IO (io), R5 IO, DIFFIO_B5p (io), R6 IO, DIFFIO_B7p (io), R7 IO, DIFFIO_B8n (io), R8 IO, DIFFIO_B10n (io), R9 IO, DIFFIO_B12p (io), R10 IO, DIFFIO_B14n (io), R11 IO, DIFFIO_B16n (io), R12 IO, DIFFIO_B18p (io), R13 IO, DIFFIO_B19n (io), R14 IO, DIFFIO_B20n (io), R16 IO, DIFFIO_B22p (io), T2 IO, DIFFIO_B2p (io), T4 IO (io), T5 IO, DIFFIO_B6p (io), T7 IO, DIFFIO_B9n (io), T8 IO, DIFFIO_B11p (io), T9 IO, DIFFIO_B11n (io), T10 IO (io), T11 IO, DIFFIO_B15n (io), T12 IO, DIFFIO_B17p (io), T13 IO, DIFFIO_B19p (io), T15 IO, DIFFIO_B21n (io)
part E pins: L6 TDI (in), M5 TDO (out), N4 TMS (in), P3 TCK (in)
part F pins: A1 GNDIO (power), A3 VCCIO2 (power), A14 VCCIO2 (power), A16 GNDIO (power), B2 GNDIO (power), B15 GNDIO (power), C1 VCCIO1 (power), C16 VCCIO3 (power), F7 GNDINT (power), F8 VCCIO2 (power), F9 VCCIO2 (power), F10 VCCINT (power), G6 GNDINT (power), G7 GNDIO (power), G8 GNDIO (power), G9 GNDIO (power), G10 GNDIO (power), G11 VCCINT (power), H6 VCCIO1 (power), H7 GNDINT (power), H8 VCCINT (power), H9 GNDINT (power), H10 VCCINT (power), H11 VCCIO3 (power), J6 VCCIO1 (power), J7 VCCINT (power), J8 GNDINT (power), J9 VCCINT (power), J10 GNDINT (power), J11 VCCIO3 (power), K6 VCCINT (power), K7 GNDIO (power), K8 GNDIO (power), K9 GNDIO (power), K10 GNDIO (power), K11 GNDINT (power), L7 VCCINT (power), L8 VCCIO4 (power), L9 VCCIO4 (power), L10 GNDINT (power), P1 VCCIO1 (power), P16 VCCIO3 (power), R2 GNDIO (power), R15 GNDIO (power), T1 GNDIO (power), T3 VCCIO4 (power), T6 GNDIO (power), T14 VCCIO4 (power), T16 GNDIO (power)
part A text: BANK 1
part B text: BANK 2
part C text: BANK 3
part D text: BANK 4

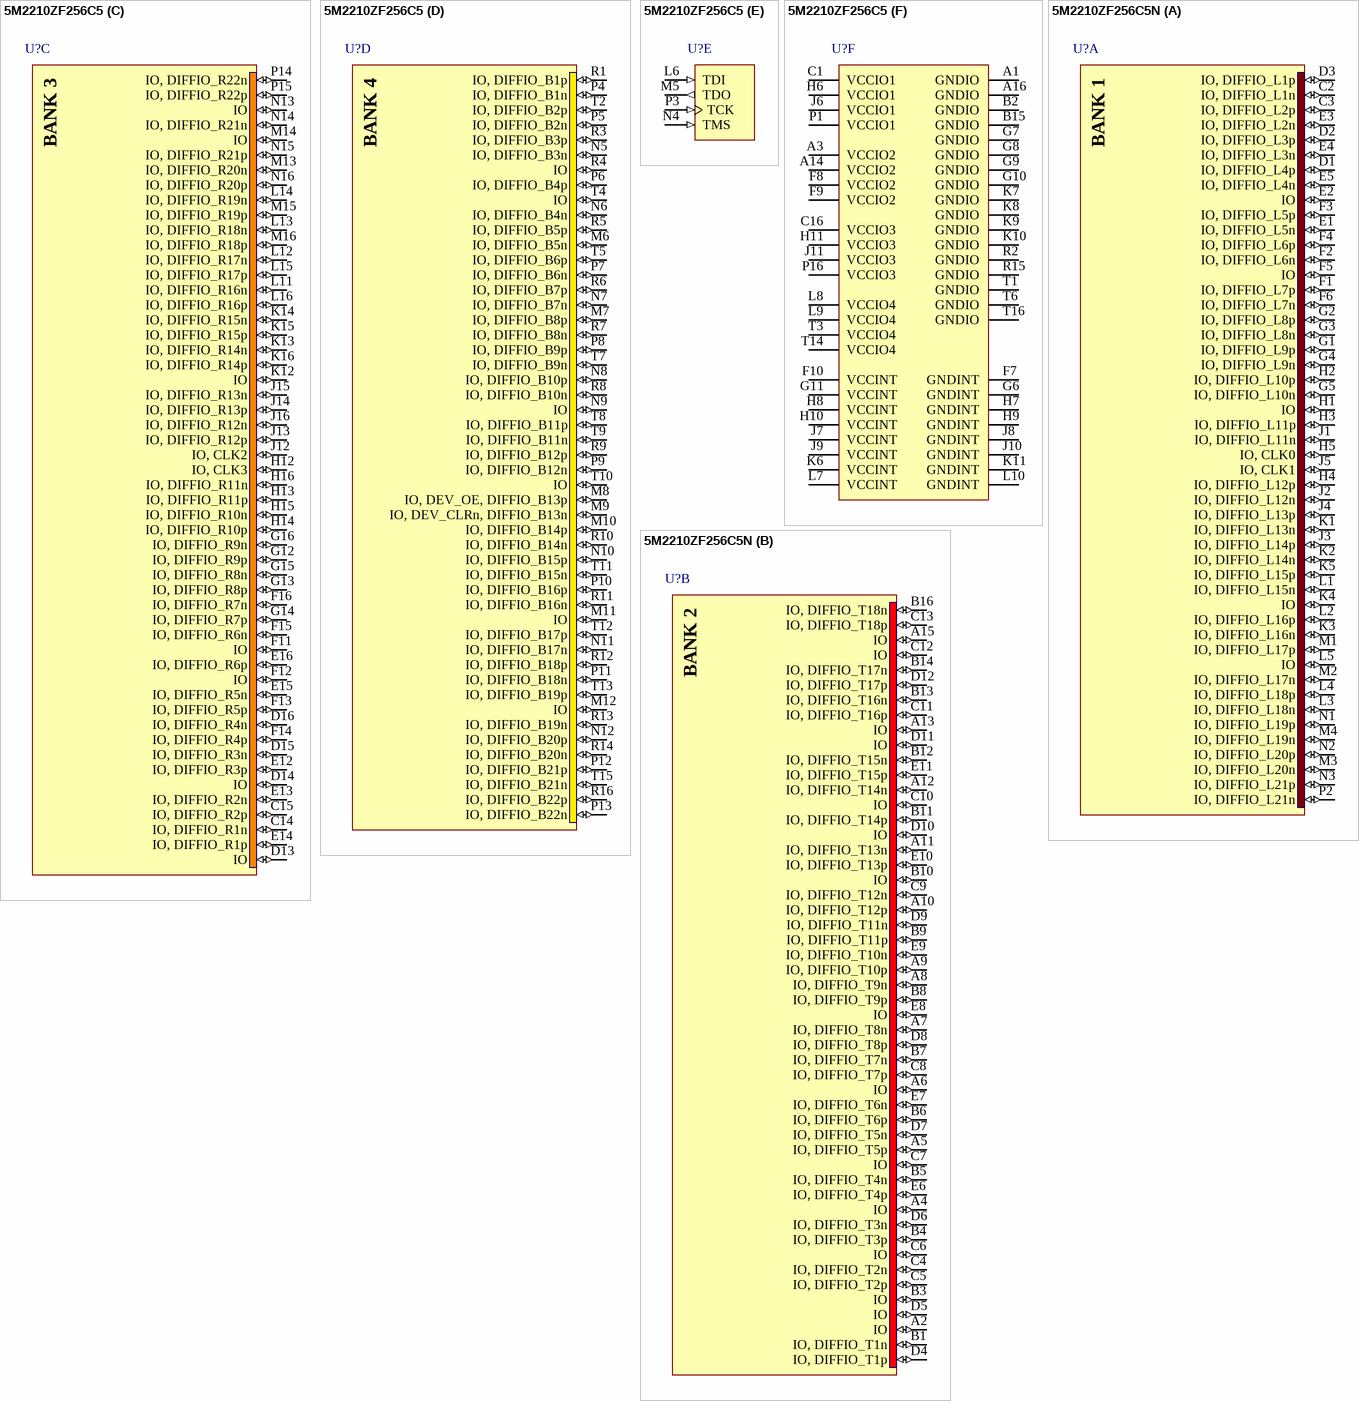
[diagram p66: symbols 5M2210ZF256C5 to 5M2210ZF256C5N]

## 5M2210ZF256C5
designator U?
MAX V 1.8V CPLD, 203 IOs, 2210 Logic Elements, 256-Pin FBGA, Commercial Temperature, Speed Grade 5; DatasheetVersion: ver1.2, May-2011; PackageVersion: ver2.0, Nov-2011; PackageReference: FBGA256_A-155; PackageDescription: 256-Pin FineLine Ball-Grid Array (FBGA) - Thin - Wire Bond - A:1.55; Code_JEDEC: MO-192-DAF-1; ComponentLink1Description: Manufacturer URL; ComponentLink1URL: http://www.altera.com/; ComponentLink2Description: Datasheet; ComponentLink2URL: http://www.altera.com/literature/hb/max-v/max5_handbook.pdf; ComponentLink3Description: MAX V Device Pin-Out files; ComponentLink3URL: http://www.altera.com/literature/lit-dp.jsp?category=MAX%205&showspreadsheet=y; ComponentLink4Description: Package Specification; ComponentLink4URL: http://www.altera.com/devicepackaging/04R-00230_03.pdf
footprint FBGA256_A-155 (BGA, 256-Leads, Body 17x17mm, Pitch 1mm)
part A pins: C2 IO, DIFFIO_L1n (io), C3 IO, DIFFIO_L2p (io), D1 IO, DIFFIO_L4p (io), D2 IO, DIFFIO_L3p (io), D3 IO, DIFFIO_L1p (io), E1 IO, DIFFIO_L5n (io), E2 IO (io), E3 IO, DIFFIO_L2n (io), E4 IO, DIFFIO_L3n (io), E5 IO, DIFFIO_L4n (io), F1 IO, DIFFIO_L7p (io), F2 IO, DIFFIO_L6n (io), F3 IO, DIFFIO_L5p (io), F4 IO, DIFFIO_L6p (io), F5 IO (io), F6 IO, DIFFIO_L7n (io), G1 IO, DIFFIO_L9p (io), G2 IO, DIFFIO_L8p (io), G3 IO, DIFFIO_L8n (io), G4 IO, DIFFIO_L9n (io), G5 IO, DIFFIO_L10n (io), H1 IO (io), H2 IO, DIFFIO_L10p (io), H3 IO, DIFFIO_L11p (io), H4 IO, DIFFIO_L12p (io), H5 IO, CLK0 (io), J1 IO, DIFFIO_L11n (io), J2 IO, DIFFIO_L12n (io), J3 IO, DIFFIO_L14p (io), J4 IO, DIFFIO_L13p (io), J5 IO, CLK1 (io), K1 IO, DIFFIO_L13n (io), K2 IO, DIFFIO_L14n (io), K3 IO, DIFFIO_L16n (io), K4 IO (io), K5 IO, DIFFIO_L15p (io), L1 IO, DIFFIO_L15n (io), L2 IO, DIFFIO_L16p (io), L3 IO, DIFFIO_L18n (io), L4 IO, DIFFIO_L18p (io), L5 IO (io), M1 IO, DIFFIO_L17p (io), M2 IO, DIFFIO_L17n (io), M3 IO, DIFFIO_L20n (io), M4 IO, DIFFIO_L19n (io), N1 IO, DIFFIO_L19p (io), N2 IO, DIFFIO_L20p (io), N3 IO, DIFFIO_L21p (io), P2 IO, DIFFIO_L21n (io)
part B pins: A2 IO (io), A4 IO (io), A5 IO, DIFFIO_T5p (io), A6 IO (io), A7 IO, DIFFIO_T8n (io), A8 IO, DIFFIO_T9n (io), A9 IO, DIFFIO_T10p (io), A10 IO, DIFFIO_T12p (io), A11 IO, DIFFIO_T13n (io), A12 IO, DIFFIO_T14n (io), A13 IO (io), A15 IO (io), B1 IO, DIFFIO_T1n (io), B3 IO (io), B4 IO, DIFFIO_T3p (io), B5 IO, DIFFIO_T4n (io), B6 IO, DIFFIO_T6p (io), B7 IO, DIFFIO_T7n (io), B8 IO, DIFFIO_T9p (io), B9 IO, DIFFIO_T11p (io), B10 IO (io), B11 IO, DIFFIO_T14p (io), B12 IO, DIFFIO_T15n (io), B13 IO, DIFFIO_T16n (io), B14 IO, DIFFIO_T17n (io), B16 IO, DIFFIO_T18n (io), C4 IO, DIFFIO_T2n (io), C5 IO, DIFFIO_T2p (io), C6 IO (io), C7 IO (io), C8 IO, DIFFIO_T7p (io), C9 IO, DIFFIO_T12n (io), C10 IO (io), C11 IO, DIFFIO_T16p (io), C12 IO (io), C13 IO, DIFFIO_T18p (io), D4 IO, DIFFIO_T1p (io), D5 IO (io), D6 IO, DIFFIO_T3n (io), D7 IO, DIFFIO_T5n (io), D8 IO, DIFFIO_T8p (io), D9 IO, DIFFIO_T11n (io), D10 IO (io), D11 IO (io), D12 IO, DIFFIO_T17p (io), E6 IO, DIFFIO_T4p (io), E7 IO, DIFFIO_T6n (io), E8 IO (io), E9 IO, DIFFIO_T10n (io), E10 IO, DIFFIO_T13p (io), E11 IO, DIFFIO_T15p (io)
part C pins: C14 IO, DIFFIO_R1n (io), C15 IO, DIFFIO_R2p (io), D13 IO (io), D14 IO (io), D15 IO, DIFFIO_R3n (io), D16 IO, DIFFIO_R4n (io), E12 IO, DIFFIO_R3p (io), E13 IO, DIFFIO_R2n (io), E14 IO, DIFFIO_R1p (io), E15 IO, DIFFIO_R5n (io), E16 IO, DIFFIO_R6p (io), F11 IO (io), F12 IO (io), F13 IO, DIFFIO_R5p (io), F14 IO, DIFFIO_R4p (io), F15 IO, DIFFIO_R6n (io), F16 IO, DIFFIO_R7n (io), G12 IO, DIFFIO_R9p (io), G13 IO, DIFFIO_R8p (io), G14 IO, DIFFIO_R7p (io), G15 IO, DIFFIO_R8n (io), G16 IO, DIFFIO_R9n (io), H12 IO, CLK3 (io), H13 IO, DIFFIO_R11p (io), H14 IO, DIFFIO_R10p (io), H15 IO, DIFFIO_R10n (io), H16 IO, DIFFIO_R11n (io), J12 IO, CLK2 (io), J13 IO, DIFFIO_R12p (io), J14 IO, DIFFIO_R13p (io), J15 IO, DIFFIO_R13n (io), J16 IO, DIFFIO_R12n (io), K12 IO (io), K13 IO, DIFFIO_R14n (io), K14 IO, DIFFIO_R15n (io), K15 IO, DIFFIO_R15p (io), K16 IO, DIFFIO_R14p (io), L11 IO, DIFFIO_R16n (io), L12 IO, DIFFIO_R17n (io), L13 IO, DIFFIO_R18n (io), L14 IO, DIFFIO_R19n (io), L15 IO, DIFFIO_R17p (io), L16 IO, DIFFIO_R16p (io), M13 IO, DIFFIO_R20n (io), M14 IO (io), M15 IO, DIFFIO_R19p (io), M16 IO, DIFFIO_R18p (io), N13 IO (io), N14 IO, DIFFIO_R21n (io), N15 IO, DIFFIO_R21p (io), N16 IO, DIFFIO_R20p (io), P14 IO, DIFFIO_R22n (io), P15 IO, DIFFIO_R22p (io)
part D pins: M6 IO, DIFFIO_B5n (io), M7 IO, DIFFIO_B8p (io), M8 IO, DEV_OE, DIFFIO_B13p (io), M9 IO, DEV_CLRn, DIFFIO_B13n (io), M10 IO, DIFFIO_B14p (io), M11 IO (io), M12 IO (io), N5 IO, DIFFIO_B3n (io), N6 IO, DIFFIO_B4n (io), N7 IO, DIFFIO_B7n (io), N8 IO, DIFFIO_B10p (io), N9 IO (io), N10 IO, DIFFIO_B15p (io), N11 IO, DIFFIO_B17n (io), N12 IO, DIFFIO_B20p (io), P4 IO, DIFFIO_B1n (io), P5 IO, DIFFIO_B2n (io), P6 IO, DIFFIO_B4p (io), P7 IO, DIFFIO_B6n (io), P8 IO, DIFFIO_B9p (io), P9 IO, DIFFIO_B12n (io), P10 IO, DIFFIO_B16p (io), P11 IO, DIFFIO_B18n (io), P12 IO, DIFFIO_B21p (io), P13 IO, DIFFIO_B22n (io), R1 IO, DIFFIO_B1p (io), R3 IO, DIFFIO_B3p (io), R4 IO (io), R5 IO, DIFFIO_B5p (io), R6 IO, DIFFIO_B7p (io), R7 IO, DIFFIO_B8n (io), R8 IO, DIFFIO_B10n (io), R9 IO, DIFFIO_B12p (io), R10 IO, DIFFIO_B14n (io), R11 IO, DIFFIO_B16n (io), R12 IO, DIFFIO_B18p (io), R13 IO, DIFFIO_B19n (io), R14 IO, DIFFIO_B20n (io), R16 IO, DIFFIO_B22p (io), T2 IO, DIFFIO_B2p (io), T4 IO (io), T5 IO, DIFFIO_B6p (io), T7 IO, DIFFIO_B9n (io), T8 IO, DIFFIO_B11p (io), T9 IO, DIFFIO_B11n (io), T10 IO (io), T11 IO, DIFFIO_B15n (io), T12 IO, DIFFIO_B17p (io), T13 IO, DIFFIO_B19p (io), T15 IO, DIFFIO_B21n (io)
part E pins: L6 TDI (in), M5 TDO (out), N4 TMS (in), P3 TCK (in)
part F pins: A1 GNDIO (power), A3 VCCIO2 (power), A14 VCCIO2 (power), A16 GNDIO (power), B2 GNDIO (power), B15 GNDIO (power), C1 VCCIO1 (power), C16 VCCIO3 (power), F7 GNDINT (power), F8 VCCIO2 (power), F9 VCCIO2 (power), F10 VCCINT (power), G6 GNDINT (power), G7 GNDIO (power), G8 GNDIO (power), G9 GNDIO (power), G10 GNDIO (power), G11 VCCINT (power), H6 VCCIO1 (power), H7 GNDINT (power), H8 VCCINT (power), H9 GNDINT (power), H10 VCCINT (power), H11 VCCIO3 (power), J6 VCCIO1 (power), J7 VCCINT (power), J8 GNDINT (power), J9 VCCINT (power), J10 GNDINT (power), J11 VCCIO3 (power), K6 VCCINT (power), K7 GNDIO (power), K8 GNDIO (power), K9 GNDIO (power), K10 GNDIO (power), K11 GNDINT (power), L7 VCCINT (power), L8 VCCIO4 (power), L9 VCCIO4 (power), L10 GNDINT (power), P1 VCCIO1 (power), P16 VCCIO3 (power), R2 GNDIO (power), R15 GNDIO (power), T1 GNDIO (power), T3 VCCIO4 (power), T6 GNDIO (power), T14 VCCIO4 (power), T16 GNDIO (power)
part A text: BANK 1
part B text: BANK 2
part C text: BANK 3
part D text: BANK 4

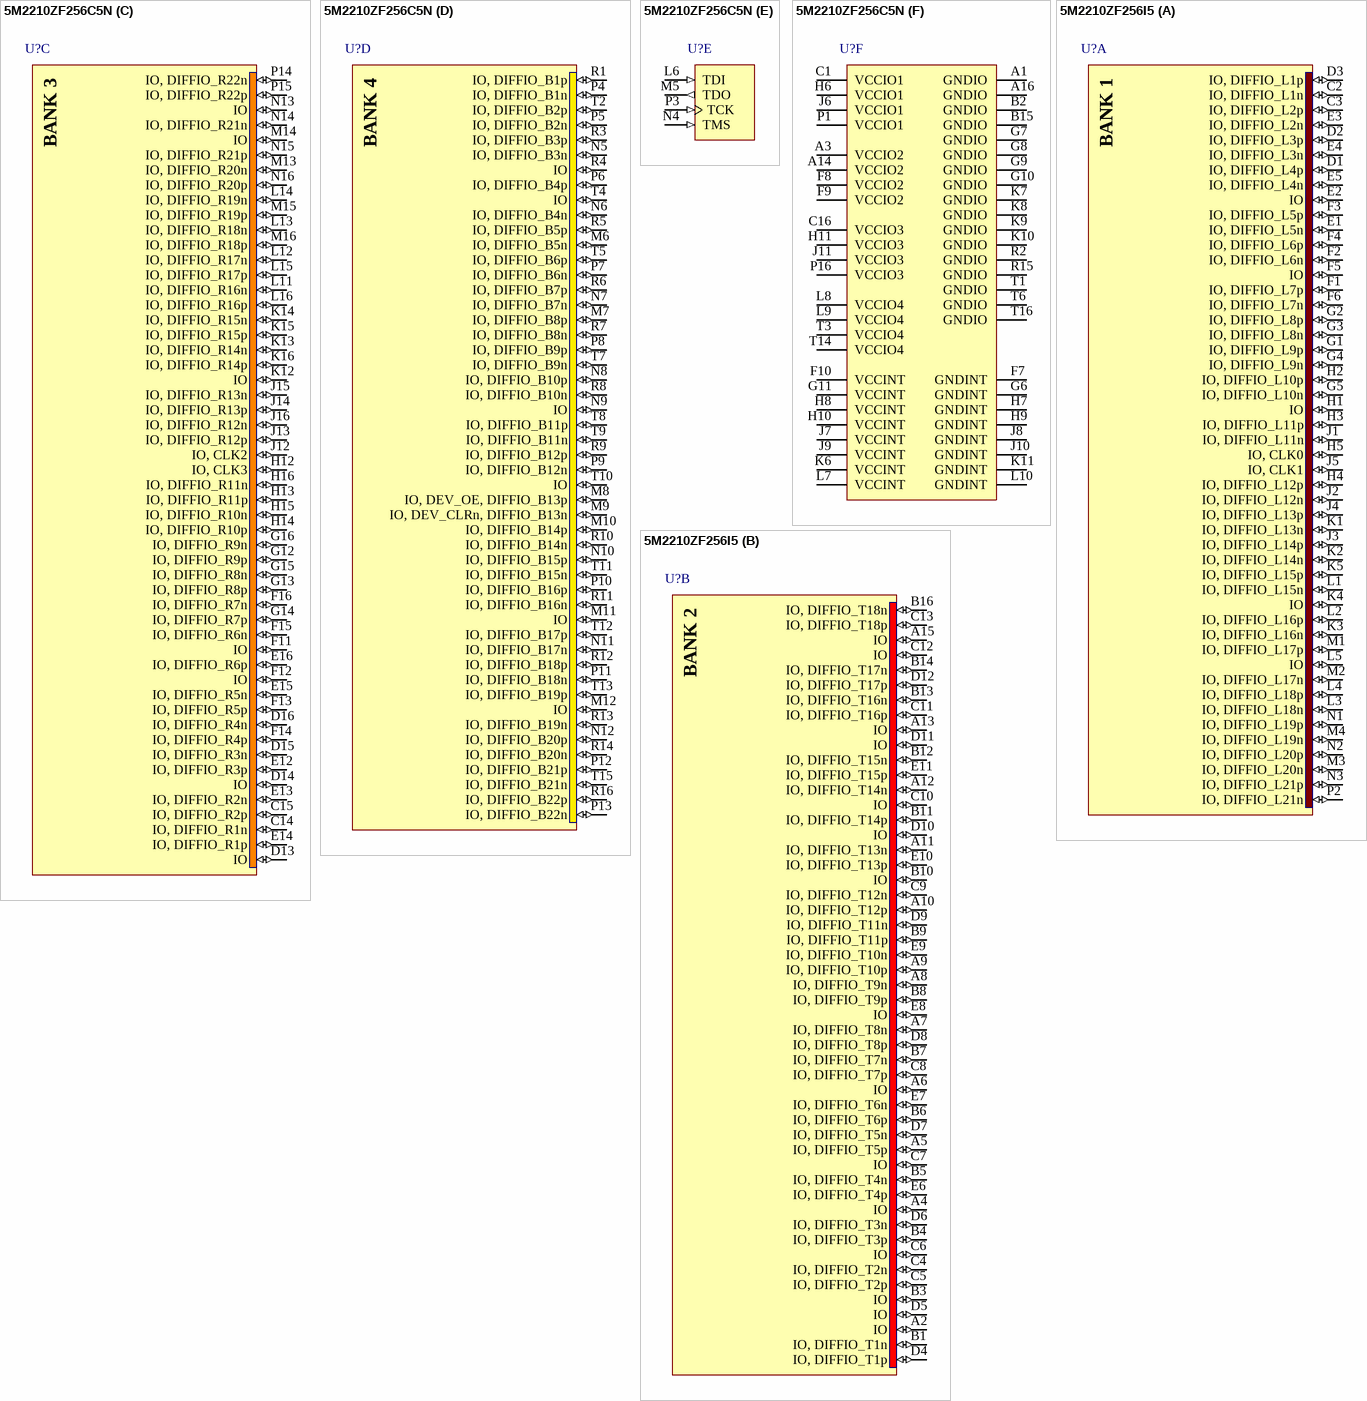
[diagram p67: symbols 5M2210ZF256C5N to 5M2210ZF256I5]

## 5M2210ZF256C5N
designator U?
MAX V 1.8V CPLD, 203 IOs, 2210 Logic Elements, 256-Pin FBGA, Commercial Temperature, Speed Grade 5, Pb-Free; DatasheetVersion: ver1.2, May-2011; PackageVersion: ver2.0, Nov-2011; PackageReference: FBGA256_A-155; PackageDescription: 256-Pin FineLine Ball-Grid Array (FBGA) - Thin - Wire Bond - A:1.55; Code_JEDEC: MO-192-DAF-1; ComponentLink1Description: Manufacturer URL; ComponentLink1URL: http://www.altera.com/; ComponentLink2Description: Datasheet; ComponentLink2URL: http://www.altera.com/literature/hb/max-v/max5_handbook.pdf; ComponentLink3Description: MAX V Device Pin-Out files; ComponentLink3URL: http://www.altera.com/literature/lit-dp.jsp?category=MAX%205&showspreadsheet=y; ComponentLink4Description: Package Specification; ComponentLink4URL: http://www.altera.com/devicepackaging/04R-00230_03.pdf
footprint FBGA256_A-155 (BGA, 256-Leads, Body 17x17mm, Pitch 1mm)
part A pins: C2 IO, DIFFIO_L1n (io), C3 IO, DIFFIO_L2p (io), D1 IO, DIFFIO_L4p (io), D2 IO, DIFFIO_L3p (io), D3 IO, DIFFIO_L1p (io), E1 IO, DIFFIO_L5n (io), E2 IO (io), E3 IO, DIFFIO_L2n (io), E4 IO, DIFFIO_L3n (io), E5 IO, DIFFIO_L4n (io), F1 IO, DIFFIO_L7p (io), F2 IO, DIFFIO_L6n (io), F3 IO, DIFFIO_L5p (io), F4 IO, DIFFIO_L6p (io), F5 IO (io), F6 IO, DIFFIO_L7n (io), G1 IO, DIFFIO_L9p (io), G2 IO, DIFFIO_L8p (io), G3 IO, DIFFIO_L8n (io), G4 IO, DIFFIO_L9n (io), G5 IO, DIFFIO_L10n (io), H1 IO (io), H2 IO, DIFFIO_L10p (io), H3 IO, DIFFIO_L11p (io), H4 IO, DIFFIO_L12p (io), H5 IO, CLK0 (io), J1 IO, DIFFIO_L11n (io), J2 IO, DIFFIO_L12n (io), J3 IO, DIFFIO_L14p (io), J4 IO, DIFFIO_L13p (io), J5 IO, CLK1 (io), K1 IO, DIFFIO_L13n (io), K2 IO, DIFFIO_L14n (io), K3 IO, DIFFIO_L16n (io), K4 IO (io), K5 IO, DIFFIO_L15p (io), L1 IO, DIFFIO_L15n (io), L2 IO, DIFFIO_L16p (io), L3 IO, DIFFIO_L18n (io), L4 IO, DIFFIO_L18p (io), L5 IO (io), M1 IO, DIFFIO_L17p (io), M2 IO, DIFFIO_L17n (io), M3 IO, DIFFIO_L20n (io), M4 IO, DIFFIO_L19n (io), N1 IO, DIFFIO_L19p (io), N2 IO, DIFFIO_L20p (io), N3 IO, DIFFIO_L21p (io), P2 IO, DIFFIO_L21n (io)
part B pins: A2 IO (io), A4 IO (io), A5 IO, DIFFIO_T5p (io), A6 IO (io), A7 IO, DIFFIO_T8n (io), A8 IO, DIFFIO_T9n (io), A9 IO, DIFFIO_T10p (io), A10 IO, DIFFIO_T12p (io), A11 IO, DIFFIO_T13n (io), A12 IO, DIFFIO_T14n (io), A13 IO (io), A15 IO (io), B1 IO, DIFFIO_T1n (io), B3 IO (io), B4 IO, DIFFIO_T3p (io), B5 IO, DIFFIO_T4n (io), B6 IO, DIFFIO_T6p (io), B7 IO, DIFFIO_T7n (io), B8 IO, DIFFIO_T9p (io), B9 IO, DIFFIO_T11p (io), B10 IO (io), B11 IO, DIFFIO_T14p (io), B12 IO, DIFFIO_T15n (io), B13 IO, DIFFIO_T16n (io), B14 IO, DIFFIO_T17n (io), B16 IO, DIFFIO_T18n (io), C4 IO, DIFFIO_T2n (io), C5 IO, DIFFIO_T2p (io), C6 IO (io), C7 IO (io), C8 IO, DIFFIO_T7p (io), C9 IO, DIFFIO_T12n (io), C10 IO (io), C11 IO, DIFFIO_T16p (io), C12 IO (io), C13 IO, DIFFIO_T18p (io), D4 IO, DIFFIO_T1p (io), D5 IO (io), D6 IO, DIFFIO_T3n (io), D7 IO, DIFFIO_T5n (io), D8 IO, DIFFIO_T8p (io), D9 IO, DIFFIO_T11n (io), D10 IO (io), D11 IO (io), D12 IO, DIFFIO_T17p (io), E6 IO, DIFFIO_T4p (io), E7 IO, DIFFIO_T6n (io), E8 IO (io), E9 IO, DIFFIO_T10n (io), E10 IO, DIFFIO_T13p (io), E11 IO, DIFFIO_T15p (io)
part C pins: C14 IO, DIFFIO_R1n (io), C15 IO, DIFFIO_R2p (io), D13 IO (io), D14 IO (io), D15 IO, DIFFIO_R3n (io), D16 IO, DIFFIO_R4n (io), E12 IO, DIFFIO_R3p (io), E13 IO, DIFFIO_R2n (io), E14 IO, DIFFIO_R1p (io), E15 IO, DIFFIO_R5n (io), E16 IO, DIFFIO_R6p (io), F11 IO (io), F12 IO (io), F13 IO, DIFFIO_R5p (io), F14 IO, DIFFIO_R4p (io), F15 IO, DIFFIO_R6n (io), F16 IO, DIFFIO_R7n (io), G12 IO, DIFFIO_R9p (io), G13 IO, DIFFIO_R8p (io), G14 IO, DIFFIO_R7p (io), G15 IO, DIFFIO_R8n (io), G16 IO, DIFFIO_R9n (io), H12 IO, CLK3 (io), H13 IO, DIFFIO_R11p (io), H14 IO, DIFFIO_R10p (io), H15 IO, DIFFIO_R10n (io), H16 IO, DIFFIO_R11n (io), J12 IO, CLK2 (io), J13 IO, DIFFIO_R12p (io), J14 IO, DIFFIO_R13p (io), J15 IO, DIFFIO_R13n (io), J16 IO, DIFFIO_R12n (io), K12 IO (io), K13 IO, DIFFIO_R14n (io), K14 IO, DIFFIO_R15n (io), K15 IO, DIFFIO_R15p (io), K16 IO, DIFFIO_R14p (io), L11 IO, DIFFIO_R16n (io), L12 IO, DIFFIO_R17n (io), L13 IO, DIFFIO_R18n (io), L14 IO, DIFFIO_R19n (io), L15 IO, DIFFIO_R17p (io), L16 IO, DIFFIO_R16p (io), M13 IO, DIFFIO_R20n (io), M14 IO (io), M15 IO, DIFFIO_R19p (io), M16 IO, DIFFIO_R18p (io), N13 IO (io), N14 IO, DIFFIO_R21n (io), N15 IO, DIFFIO_R21p (io), N16 IO, DIFFIO_R20p (io), P14 IO, DIFFIO_R22n (io), P15 IO, DIFFIO_R22p (io)
part D pins: M6 IO, DIFFIO_B5n (io), M7 IO, DIFFIO_B8p (io), M8 IO, DEV_OE, DIFFIO_B13p (io), M9 IO, DEV_CLRn, DIFFIO_B13n (io), M10 IO, DIFFIO_B14p (io), M11 IO (io), M12 IO (io), N5 IO, DIFFIO_B3n (io), N6 IO, DIFFIO_B4n (io), N7 IO, DIFFIO_B7n (io), N8 IO, DIFFIO_B10p (io), N9 IO (io), N10 IO, DIFFIO_B15p (io), N11 IO, DIFFIO_B17n (io), N12 IO, DIFFIO_B20p (io), P4 IO, DIFFIO_B1n (io), P5 IO, DIFFIO_B2n (io), P6 IO, DIFFIO_B4p (io), P7 IO, DIFFIO_B6n (io), P8 IO, DIFFIO_B9p (io), P9 IO, DIFFIO_B12n (io), P10 IO, DIFFIO_B16p (io), P11 IO, DIFFIO_B18n (io), P12 IO, DIFFIO_B21p (io), P13 IO, DIFFIO_B22n (io), R1 IO, DIFFIO_B1p (io), R3 IO, DIFFIO_B3p (io), R4 IO (io), R5 IO, DIFFIO_B5p (io), R6 IO, DIFFIO_B7p (io), R7 IO, DIFFIO_B8n (io), R8 IO, DIFFIO_B10n (io), R9 IO, DIFFIO_B12p (io), R10 IO, DIFFIO_B14n (io), R11 IO, DIFFIO_B16n (io), R12 IO, DIFFIO_B18p (io), R13 IO, DIFFIO_B19n (io), R14 IO, DIFFIO_B20n (io), R16 IO, DIFFIO_B22p (io), T2 IO, DIFFIO_B2p (io), T4 IO (io), T5 IO, DIFFIO_B6p (io), T7 IO, DIFFIO_B9n (io), T8 IO, DIFFIO_B11p (io), T9 IO, DIFFIO_B11n (io), T10 IO (io), T11 IO, DIFFIO_B15n (io), T12 IO, DIFFIO_B17p (io), T13 IO, DIFFIO_B19p (io), T15 IO, DIFFIO_B21n (io)
part E pins: L6 TDI (in), M5 TDO (out), N4 TMS (in), P3 TCK (in)
part F pins: A1 GNDIO (power), A3 VCCIO2 (power), A14 VCCIO2 (power), A16 GNDIO (power), B2 GNDIO (power), B15 GNDIO (power), C1 VCCIO1 (power), C16 VCCIO3 (power), F7 GNDINT (power), F8 VCCIO2 (power), F9 VCCIO2 (power), F10 VCCINT (power), G6 GNDINT (power), G7 GNDIO (power), G8 GNDIO (power), G9 GNDIO (power), G10 GNDIO (power), G11 VCCINT (power), H6 VCCIO1 (power), H7 GNDINT (power), H8 VCCINT (power), H9 GNDINT (power), H10 VCCINT (power), H11 VCCIO3 (power), J6 VCCIO1 (power), J7 VCCINT (power), J8 GNDINT (power), J9 VCCINT (power), J10 GNDINT (power), J11 VCCIO3 (power), K6 VCCINT (power), K7 GNDIO (power), K8 GNDIO (power), K9 GNDIO (power), K10 GNDIO (power), K11 GNDINT (power), L7 VCCINT (power), L8 VCCIO4 (power), L9 VCCIO4 (power), L10 GNDINT (power), P1 VCCIO1 (power), P16 VCCIO3 (power), R2 GNDIO (power), R15 GNDIO (power), T1 GNDIO (power), T3 VCCIO4 (power), T6 GNDIO (power), T14 VCCIO4 (power), T16 GNDIO (power)
part A text: BANK 1
part B text: BANK 2
part C text: BANK 3
part D text: BANK 4

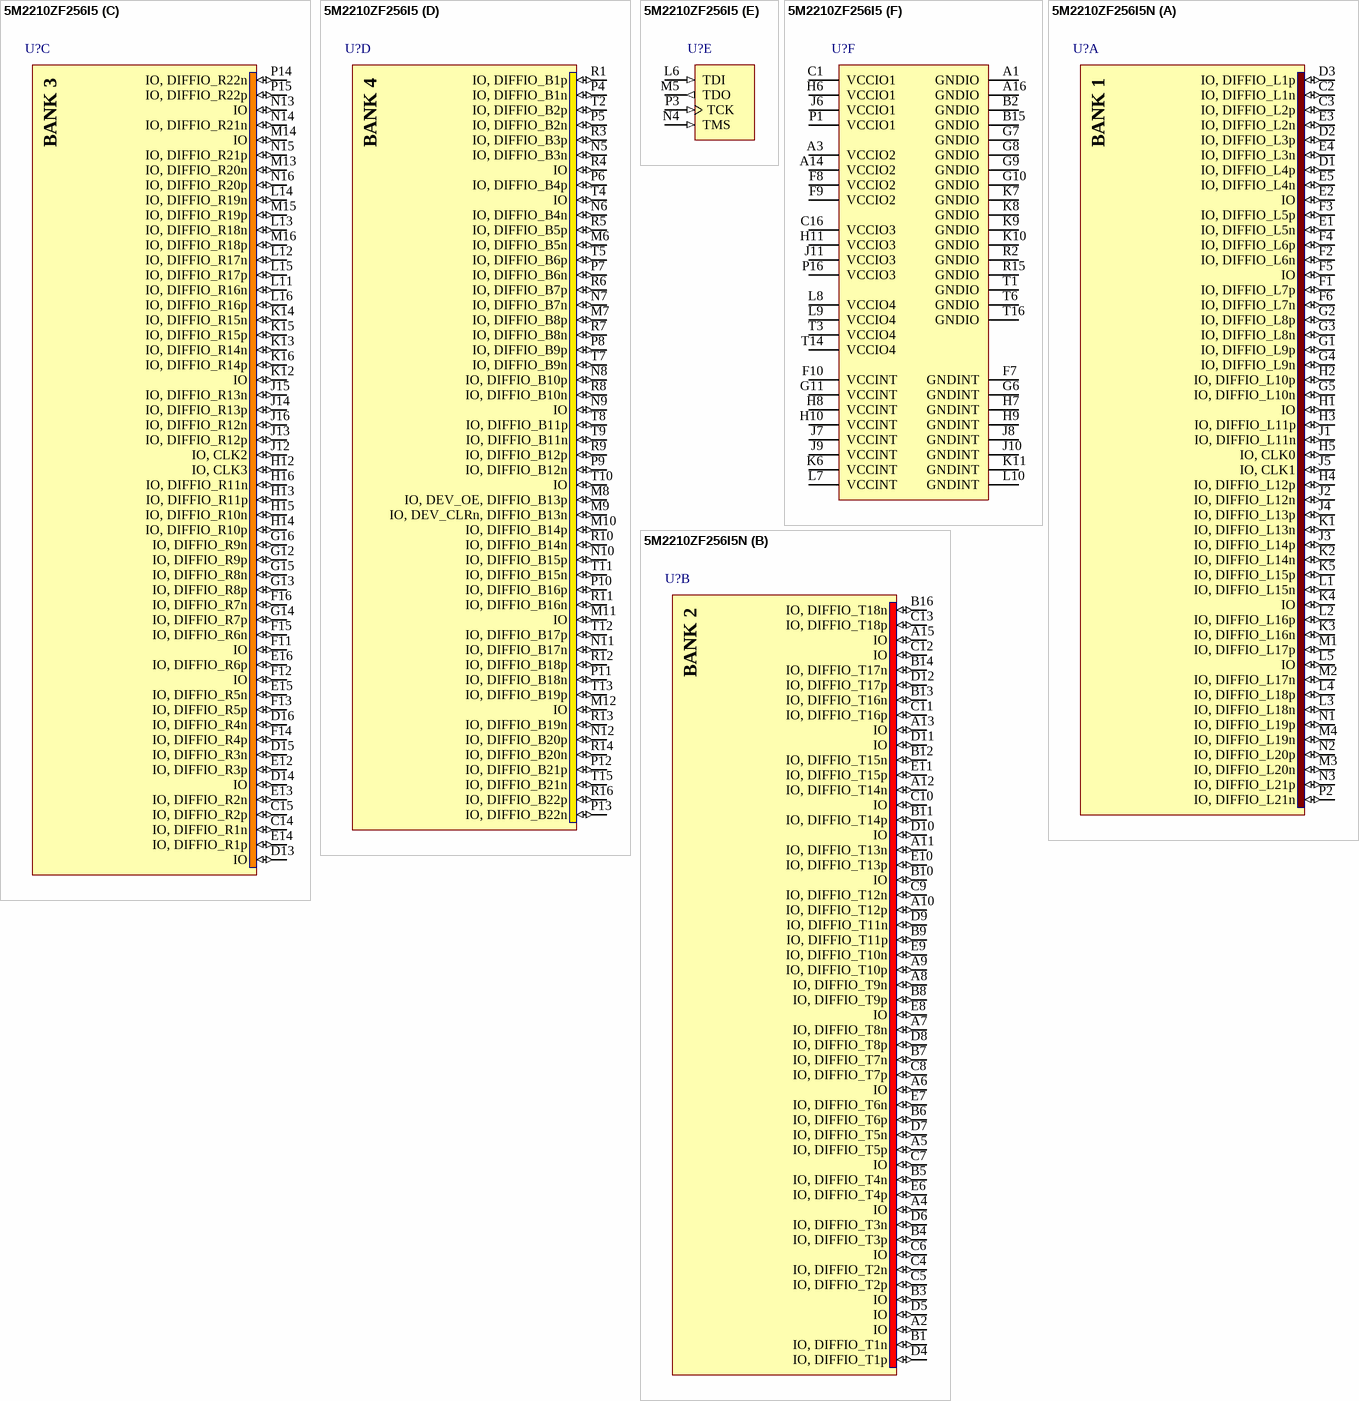
[diagram p68: symbols 5M2210ZF256I5 to 5M2210ZF256I5N]

## 5M2210ZF256I5
designator U?
MAX V 1.8V CPLD, 203 IOs, 2210 Logic Elements, 256-Pin FBGA, Industrial Temperature, Speed Grade 5; DatasheetVersion: ver1.2, May-2011; PackageVersion: ver2.0, Nov-2011; PackageReference: FBGA256_A-155; PackageDescription: 256-Pin FineLine Ball-Grid Array (FBGA) - Thin - Wire Bond - A:1.55; Code_JEDEC: MO-192-DAF-1; ComponentLink1Description: Manufacturer URL; ComponentLink1URL: http://www.altera.com/; ComponentLink2Description: Datasheet; ComponentLink2URL: http://www.altera.com/literature/hb/max-v/max5_handbook.pdf; ComponentLink3Description: MAX V Device Pin-Out files; ComponentLink3URL: http://www.altera.com/literature/lit-dp.jsp?category=MAX%205&showspreadsheet=y; ComponentLink4Description: Package Specification; ComponentLink4URL: http://www.altera.com/devicepackaging/04R-00230_03.pdf
footprint FBGA256_A-155 (BGA, 256-Leads, Body 17x17mm, Pitch 1mm)
part A pins: C2 IO, DIFFIO_L1n (io), C3 IO, DIFFIO_L2p (io), D1 IO, DIFFIO_L4p (io), D2 IO, DIFFIO_L3p (io), D3 IO, DIFFIO_L1p (io), E1 IO, DIFFIO_L5n (io), E2 IO (io), E3 IO, DIFFIO_L2n (io), E4 IO, DIFFIO_L3n (io), E5 IO, DIFFIO_L4n (io), F1 IO, DIFFIO_L7p (io), F2 IO, DIFFIO_L6n (io), F3 IO, DIFFIO_L5p (io), F4 IO, DIFFIO_L6p (io), F5 IO (io), F6 IO, DIFFIO_L7n (io), G1 IO, DIFFIO_L9p (io), G2 IO, DIFFIO_L8p (io), G3 IO, DIFFIO_L8n (io), G4 IO, DIFFIO_L9n (io), G5 IO, DIFFIO_L10n (io), H1 IO (io), H2 IO, DIFFIO_L10p (io), H3 IO, DIFFIO_L11p (io), H4 IO, DIFFIO_L12p (io), H5 IO, CLK0 (io), J1 IO, DIFFIO_L11n (io), J2 IO, DIFFIO_L12n (io), J3 IO, DIFFIO_L14p (io), J4 IO, DIFFIO_L13p (io), J5 IO, CLK1 (io), K1 IO, DIFFIO_L13n (io), K2 IO, DIFFIO_L14n (io), K3 IO, DIFFIO_L16n (io), K4 IO (io), K5 IO, DIFFIO_L15p (io), L1 IO, DIFFIO_L15n (io), L2 IO, DIFFIO_L16p (io), L3 IO, DIFFIO_L18n (io), L4 IO, DIFFIO_L18p (io), L5 IO (io), M1 IO, DIFFIO_L17p (io), M2 IO, DIFFIO_L17n (io), M3 IO, DIFFIO_L20n (io), M4 IO, DIFFIO_L19n (io), N1 IO, DIFFIO_L19p (io), N2 IO, DIFFIO_L20p (io), N3 IO, DIFFIO_L21p (io), P2 IO, DIFFIO_L21n (io)
part B pins: A2 IO (io), A4 IO (io), A5 IO, DIFFIO_T5p (io), A6 IO (io), A7 IO, DIFFIO_T8n (io), A8 IO, DIFFIO_T9n (io), A9 IO, DIFFIO_T10p (io), A10 IO, DIFFIO_T12p (io), A11 IO, DIFFIO_T13n (io), A12 IO, DIFFIO_T14n (io), A13 IO (io), A15 IO (io), B1 IO, DIFFIO_T1n (io), B3 IO (io), B4 IO, DIFFIO_T3p (io), B5 IO, DIFFIO_T4n (io), B6 IO, DIFFIO_T6p (io), B7 IO, DIFFIO_T7n (io), B8 IO, DIFFIO_T9p (io), B9 IO, DIFFIO_T11p (io), B10 IO (io), B11 IO, DIFFIO_T14p (io), B12 IO, DIFFIO_T15n (io), B13 IO, DIFFIO_T16n (io), B14 IO, DIFFIO_T17n (io), B16 IO, DIFFIO_T18n (io), C4 IO, DIFFIO_T2n (io), C5 IO, DIFFIO_T2p (io), C6 IO (io), C7 IO (io), C8 IO, DIFFIO_T7p (io), C9 IO, DIFFIO_T12n (io), C10 IO (io), C11 IO, DIFFIO_T16p (io), C12 IO (io), C13 IO, DIFFIO_T18p (io), D4 IO, DIFFIO_T1p (io), D5 IO (io), D6 IO, DIFFIO_T3n (io), D7 IO, DIFFIO_T5n (io), D8 IO, DIFFIO_T8p (io), D9 IO, DIFFIO_T11n (io), D10 IO (io), D11 IO (io), D12 IO, DIFFIO_T17p (io), E6 IO, DIFFIO_T4p (io), E7 IO, DIFFIO_T6n (io), E8 IO (io), E9 IO, DIFFIO_T10n (io), E10 IO, DIFFIO_T13p (io), E11 IO, DIFFIO_T15p (io)
part C pins: C14 IO, DIFFIO_R1n (io), C15 IO, DIFFIO_R2p (io), D13 IO (io), D14 IO (io), D15 IO, DIFFIO_R3n (io), D16 IO, DIFFIO_R4n (io), E12 IO, DIFFIO_R3p (io), E13 IO, DIFFIO_R2n (io), E14 IO, DIFFIO_R1p (io), E15 IO, DIFFIO_R5n (io), E16 IO, DIFFIO_R6p (io), F11 IO (io), F12 IO (io), F13 IO, DIFFIO_R5p (io), F14 IO, DIFFIO_R4p (io), F15 IO, DIFFIO_R6n (io), F16 IO, DIFFIO_R7n (io), G12 IO, DIFFIO_R9p (io), G13 IO, DIFFIO_R8p (io), G14 IO, DIFFIO_R7p (io), G15 IO, DIFFIO_R8n (io), G16 IO, DIFFIO_R9n (io), H12 IO, CLK3 (io), H13 IO, DIFFIO_R11p (io), H14 IO, DIFFIO_R10p (io), H15 IO, DIFFIO_R10n (io), H16 IO, DIFFIO_R11n (io), J12 IO, CLK2 (io), J13 IO, DIFFIO_R12p (io), J14 IO, DIFFIO_R13p (io), J15 IO, DIFFIO_R13n (io), J16 IO, DIFFIO_R12n (io), K12 IO (io), K13 IO, DIFFIO_R14n (io), K14 IO, DIFFIO_R15n (io), K15 IO, DIFFIO_R15p (io), K16 IO, DIFFIO_R14p (io), L11 IO, DIFFIO_R16n (io), L12 IO, DIFFIO_R17n (io), L13 IO, DIFFIO_R18n (io), L14 IO, DIFFIO_R19n (io), L15 IO, DIFFIO_R17p (io), L16 IO, DIFFIO_R16p (io), M13 IO, DIFFIO_R20n (io), M14 IO (io), M15 IO, DIFFIO_R19p (io), M16 IO, DIFFIO_R18p (io), N13 IO (io), N14 IO, DIFFIO_R21n (io), N15 IO, DIFFIO_R21p (io), N16 IO, DIFFIO_R20p (io), P14 IO, DIFFIO_R22n (io), P15 IO, DIFFIO_R22p (io)
part D pins: M6 IO, DIFFIO_B5n (io), M7 IO, DIFFIO_B8p (io), M8 IO, DEV_OE, DIFFIO_B13p (io), M9 IO, DEV_CLRn, DIFFIO_B13n (io), M10 IO, DIFFIO_B14p (io), M11 IO (io), M12 IO (io), N5 IO, DIFFIO_B3n (io), N6 IO, DIFFIO_B4n (io), N7 IO, DIFFIO_B7n (io), N8 IO, DIFFIO_B10p (io), N9 IO (io), N10 IO, DIFFIO_B15p (io), N11 IO, DIFFIO_B17n (io), N12 IO, DIFFIO_B20p (io), P4 IO, DIFFIO_B1n (io), P5 IO, DIFFIO_B2n (io), P6 IO, DIFFIO_B4p (io), P7 IO, DIFFIO_B6n (io), P8 IO, DIFFIO_B9p (io), P9 IO, DIFFIO_B12n (io), P10 IO, DIFFIO_B16p (io), P11 IO, DIFFIO_B18n (io), P12 IO, DIFFIO_B21p (io), P13 IO, DIFFIO_B22n (io), R1 IO, DIFFIO_B1p (io), R3 IO, DIFFIO_B3p (io), R4 IO (io), R5 IO, DIFFIO_B5p (io), R6 IO, DIFFIO_B7p (io), R7 IO, DIFFIO_B8n (io), R8 IO, DIFFIO_B10n (io), R9 IO, DIFFIO_B12p (io), R10 IO, DIFFIO_B14n (io), R11 IO, DIFFIO_B16n (io), R12 IO, DIFFIO_B18p (io), R13 IO, DIFFIO_B19n (io), R14 IO, DIFFIO_B20n (io), R16 IO, DIFFIO_B22p (io), T2 IO, DIFFIO_B2p (io), T4 IO (io), T5 IO, DIFFIO_B6p (io), T7 IO, DIFFIO_B9n (io), T8 IO, DIFFIO_B11p (io), T9 IO, DIFFIO_B11n (io), T10 IO (io), T11 IO, DIFFIO_B15n (io), T12 IO, DIFFIO_B17p (io), T13 IO, DIFFIO_B19p (io), T15 IO, DIFFIO_B21n (io)
part E pins: L6 TDI (in), M5 TDO (out), N4 TMS (in), P3 TCK (in)
part F pins: A1 GNDIO (power), A3 VCCIO2 (power), A14 VCCIO2 (power), A16 GNDIO (power), B2 GNDIO (power), B15 GNDIO (power), C1 VCCIO1 (power), C16 VCCIO3 (power), F7 GNDINT (power), F8 VCCIO2 (power), F9 VCCIO2 (power), F10 VCCINT (power), G6 GNDINT (power), G7 GNDIO (power), G8 GNDIO (power), G9 GNDIO (power), G10 GNDIO (power), G11 VCCINT (power), H6 VCCIO1 (power), H7 GNDINT (power), H8 VCCINT (power), H9 GNDINT (power), H10 VCCINT (power), H11 VCCIO3 (power), J6 VCCIO1 (power), J7 VCCINT (power), J8 GNDINT (power), J9 VCCINT (power), J10 GNDINT (power), J11 VCCIO3 (power), K6 VCCINT (power), K7 GNDIO (power), K8 GNDIO (power), K9 GNDIO (power), K10 GNDIO (power), K11 GNDINT (power), L7 VCCINT (power), L8 VCCIO4 (power), L9 VCCIO4 (power), L10 GNDINT (power), P1 VCCIO1 (power), P16 VCCIO3 (power), R2 GNDIO (power), R15 GNDIO (power), T1 GNDIO (power), T3 VCCIO4 (power), T6 GNDIO (power), T14 VCCIO4 (power), T16 GNDIO (power)
part A text: BANK 1
part B text: BANK 2
part C text: BANK 3
part D text: BANK 4

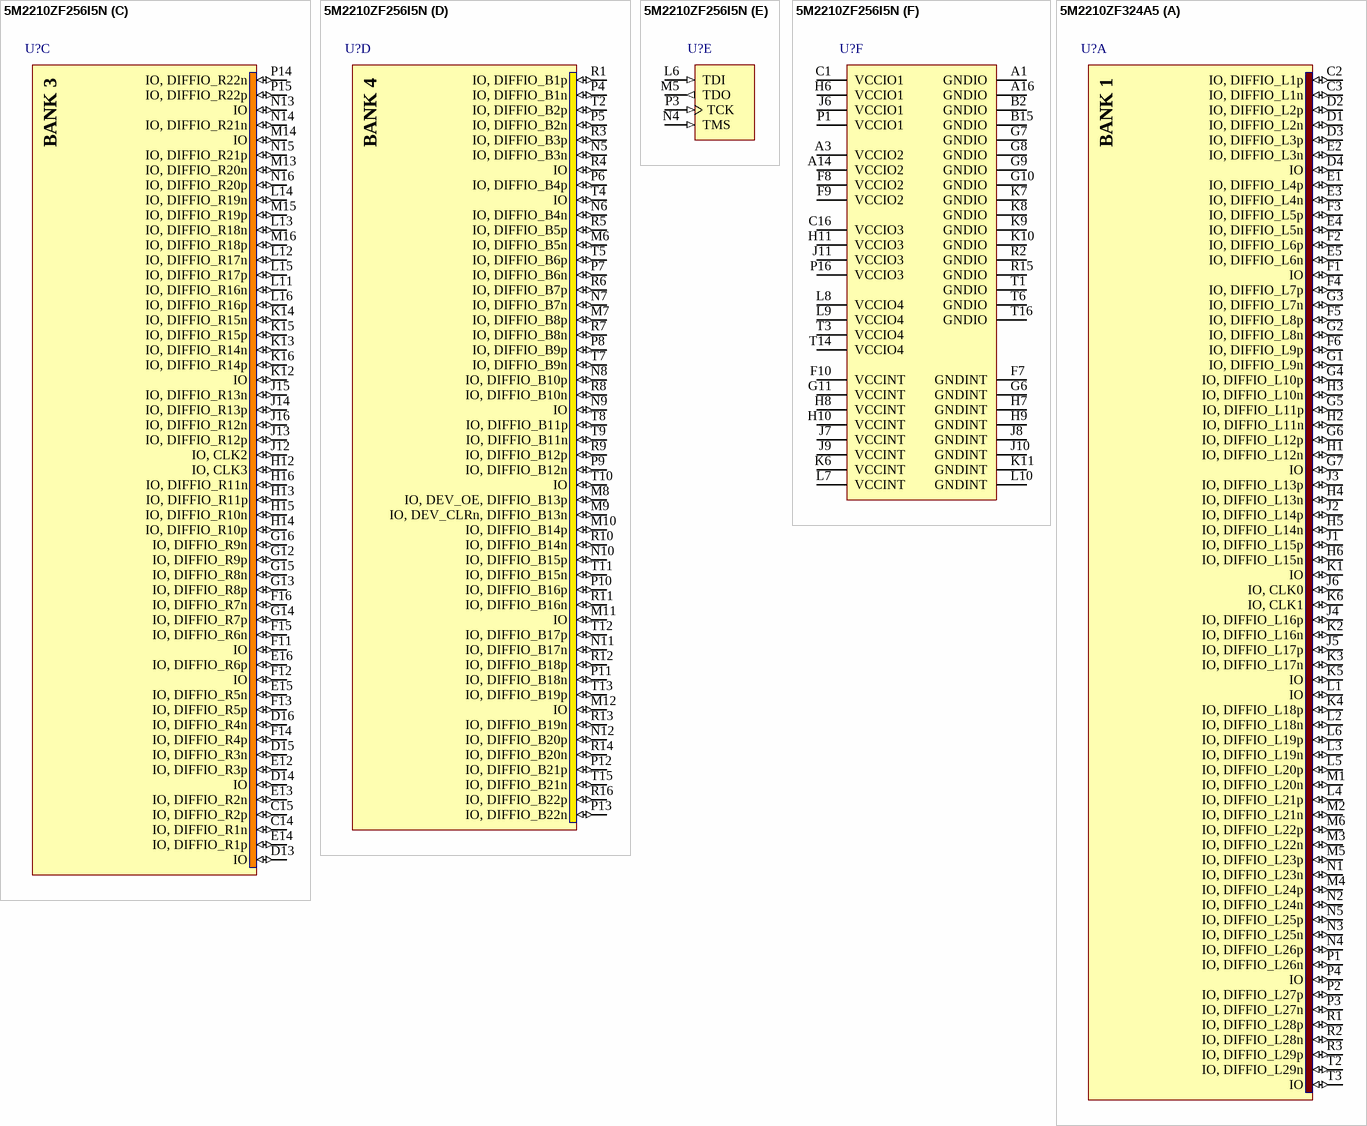
[diagram p69: symbols 5M2210ZF256I5N to 5M2210ZF324A5]

## 5M2210ZF256I5N
designator U?
MAX V 1.8V CPLD, 203 IOs, 2210 Logic Elements, 256-Pin FBGA, Industrial Temperature, Speed Grade 5, Pb-Free; DatasheetVersion: ver1.2, May-2011; PackageVersion: ver2.0, Nov-2011; PackageReference: FBGA256_A-155; PackageDescription: 256-Pin FineLine Ball-Grid Array (FBGA) - Thin - Wire Bond - A:1.55; Code_JEDEC: MO-192-DAF-1; ComponentLink1Description: Manufacturer URL; ComponentLink1URL: http://www.altera.com/; ComponentLink2Description: Datasheet; ComponentLink2URL: http://www.altera.com/literature/hb/max-v/max5_handbook.pdf; ComponentLink3Description: MAX V Device Pin-Out files; ComponentLink3URL: http://www.altera.com/literature/lit-dp.jsp?category=MAX%205&showspreadsheet=y; ComponentLink4Description: Package Specification; ComponentLink4URL: http://www.altera.com/devicepackaging/04R-00230_03.pdf
footprint FBGA256_A-155 (BGA, 256-Leads, Body 17x17mm, Pitch 1mm)
part A pins: C2 IO, DIFFIO_L1n (io), C3 IO, DIFFIO_L2p (io), D1 IO, DIFFIO_L4p (io), D2 IO, DIFFIO_L3p (io), D3 IO, DIFFIO_L1p (io), E1 IO, DIFFIO_L5n (io), E2 IO (io), E3 IO, DIFFIO_L2n (io), E4 IO, DIFFIO_L3n (io), E5 IO, DIFFIO_L4n (io), F1 IO, DIFFIO_L7p (io), F2 IO, DIFFIO_L6n (io), F3 IO, DIFFIO_L5p (io), F4 IO, DIFFIO_L6p (io), F5 IO (io), F6 IO, DIFFIO_L7n (io), G1 IO, DIFFIO_L9p (io), G2 IO, DIFFIO_L8p (io), G3 IO, DIFFIO_L8n (io), G4 IO, DIFFIO_L9n (io), G5 IO, DIFFIO_L10n (io), H1 IO (io), H2 IO, DIFFIO_L10p (io), H3 IO, DIFFIO_L11p (io), H4 IO, DIFFIO_L12p (io), H5 IO, CLK0 (io), J1 IO, DIFFIO_L11n (io), J2 IO, DIFFIO_L12n (io), J3 IO, DIFFIO_L14p (io), J4 IO, DIFFIO_L13p (io), J5 IO, CLK1 (io), K1 IO, DIFFIO_L13n (io), K2 IO, DIFFIO_L14n (io), K3 IO, DIFFIO_L16n (io), K4 IO (io), K5 IO, DIFFIO_L15p (io), L1 IO, DIFFIO_L15n (io), L2 IO, DIFFIO_L16p (io), L3 IO, DIFFIO_L18n (io), L4 IO, DIFFIO_L18p (io), L5 IO (io), M1 IO, DIFFIO_L17p (io), M2 IO, DIFFIO_L17n (io), M3 IO, DIFFIO_L20n (io), M4 IO, DIFFIO_L19n (io), N1 IO, DIFFIO_L19p (io), N2 IO, DIFFIO_L20p (io), N3 IO, DIFFIO_L21p (io), P2 IO, DIFFIO_L21n (io)
part B pins: A2 IO (io), A4 IO (io), A5 IO, DIFFIO_T5p (io), A6 IO (io), A7 IO, DIFFIO_T8n (io), A8 IO, DIFFIO_T9n (io), A9 IO, DIFFIO_T10p (io), A10 IO, DIFFIO_T12p (io), A11 IO, DIFFIO_T13n (io), A12 IO, DIFFIO_T14n (io), A13 IO (io), A15 IO (io), B1 IO, DIFFIO_T1n (io), B3 IO (io), B4 IO, DIFFIO_T3p (io), B5 IO, DIFFIO_T4n (io), B6 IO, DIFFIO_T6p (io), B7 IO, DIFFIO_T7n (io), B8 IO, DIFFIO_T9p (io), B9 IO, DIFFIO_T11p (io), B10 IO (io), B11 IO, DIFFIO_T14p (io), B12 IO, DIFFIO_T15n (io), B13 IO, DIFFIO_T16n (io), B14 IO, DIFFIO_T17n (io), B16 IO, DIFFIO_T18n (io), C4 IO, DIFFIO_T2n (io), C5 IO, DIFFIO_T2p (io), C6 IO (io), C7 IO (io), C8 IO, DIFFIO_T7p (io), C9 IO, DIFFIO_T12n (io), C10 IO (io), C11 IO, DIFFIO_T16p (io), C12 IO (io), C13 IO, DIFFIO_T18p (io), D4 IO, DIFFIO_T1p (io), D5 IO (io), D6 IO, DIFFIO_T3n (io), D7 IO, DIFFIO_T5n (io), D8 IO, DIFFIO_T8p (io), D9 IO, DIFFIO_T11n (io), D10 IO (io), D11 IO (io), D12 IO, DIFFIO_T17p (io), E6 IO, DIFFIO_T4p (io), E7 IO, DIFFIO_T6n (io), E8 IO (io), E9 IO, DIFFIO_T10n (io), E10 IO, DIFFIO_T13p (io), E11 IO, DIFFIO_T15p (io)
part C pins: C14 IO, DIFFIO_R1n (io), C15 IO, DIFFIO_R2p (io), D13 IO (io), D14 IO (io), D15 IO, DIFFIO_R3n (io), D16 IO, DIFFIO_R4n (io), E12 IO, DIFFIO_R3p (io), E13 IO, DIFFIO_R2n (io), E14 IO, DIFFIO_R1p (io), E15 IO, DIFFIO_R5n (io), E16 IO, DIFFIO_R6p (io), F11 IO (io), F12 IO (io), F13 IO, DIFFIO_R5p (io), F14 IO, DIFFIO_R4p (io), F15 IO, DIFFIO_R6n (io), F16 IO, DIFFIO_R7n (io), G12 IO, DIFFIO_R9p (io), G13 IO, DIFFIO_R8p (io), G14 IO, DIFFIO_R7p (io), G15 IO, DIFFIO_R8n (io), G16 IO, DIFFIO_R9n (io), H12 IO, CLK3 (io), H13 IO, DIFFIO_R11p (io), H14 IO, DIFFIO_R10p (io), H15 IO, DIFFIO_R10n (io), H16 IO, DIFFIO_R11n (io), J12 IO, CLK2 (io), J13 IO, DIFFIO_R12p (io), J14 IO, DIFFIO_R13p (io), J15 IO, DIFFIO_R13n (io), J16 IO, DIFFIO_R12n (io), K12 IO (io), K13 IO, DIFFIO_R14n (io), K14 IO, DIFFIO_R15n (io), K15 IO, DIFFIO_R15p (io), K16 IO, DIFFIO_R14p (io), L11 IO, DIFFIO_R16n (io), L12 IO, DIFFIO_R17n (io), L13 IO, DIFFIO_R18n (io), L14 IO, DIFFIO_R19n (io), L15 IO, DIFFIO_R17p (io), L16 IO, DIFFIO_R16p (io), M13 IO, DIFFIO_R20n (io), M14 IO (io), M15 IO, DIFFIO_R19p (io), M16 IO, DIFFIO_R18p (io), N13 IO (io), N14 IO, DIFFIO_R21n (io), N15 IO, DIFFIO_R21p (io), N16 IO, DIFFIO_R20p (io), P14 IO, DIFFIO_R22n (io), P15 IO, DIFFIO_R22p (io)
part D pins: M6 IO, DIFFIO_B5n (io), M7 IO, DIFFIO_B8p (io), M8 IO, DEV_OE, DIFFIO_B13p (io), M9 IO, DEV_CLRn, DIFFIO_B13n (io), M10 IO, DIFFIO_B14p (io), M11 IO (io), M12 IO (io), N5 IO, DIFFIO_B3n (io), N6 IO, DIFFIO_B4n (io), N7 IO, DIFFIO_B7n (io), N8 IO, DIFFIO_B10p (io), N9 IO (io), N10 IO, DIFFIO_B15p (io), N11 IO, DIFFIO_B17n (io), N12 IO, DIFFIO_B20p (io), P4 IO, DIFFIO_B1n (io), P5 IO, DIFFIO_B2n (io), P6 IO, DIFFIO_B4p (io), P7 IO, DIFFIO_B6n (io), P8 IO, DIFFIO_B9p (io), P9 IO, DIFFIO_B12n (io), P10 IO, DIFFIO_B16p (io), P11 IO, DIFFIO_B18n (io), P12 IO, DIFFIO_B21p (io), P13 IO, DIFFIO_B22n (io), R1 IO, DIFFIO_B1p (io), R3 IO, DIFFIO_B3p (io), R4 IO (io), R5 IO, DIFFIO_B5p (io), R6 IO, DIFFIO_B7p (io), R7 IO, DIFFIO_B8n (io), R8 IO, DIFFIO_B10n (io), R9 IO, DIFFIO_B12p (io), R10 IO, DIFFIO_B14n (io), R11 IO, DIFFIO_B16n (io), R12 IO, DIFFIO_B18p (io), R13 IO, DIFFIO_B19n (io), R14 IO, DIFFIO_B20n (io), R16 IO, DIFFIO_B22p (io), T2 IO, DIFFIO_B2p (io), T4 IO (io), T5 IO, DIFFIO_B6p (io), T7 IO, DIFFIO_B9n (io), T8 IO, DIFFIO_B11p (io), T9 IO, DIFFIO_B11n (io), T10 IO (io), T11 IO, DIFFIO_B15n (io), T12 IO, DIFFIO_B17p (io), T13 IO, DIFFIO_B19p (io), T15 IO, DIFFIO_B21n (io)
part E pins: L6 TDI (in), M5 TDO (out), N4 TMS (in), P3 TCK (in)
part F pins: A1 GNDIO (power), A3 VCCIO2 (power), A14 VCCIO2 (power), A16 GNDIO (power), B2 GNDIO (power), B15 GNDIO (power), C1 VCCIO1 (power), C16 VCCIO3 (power), F7 GNDINT (power), F8 VCCIO2 (power), F9 VCCIO2 (power), F10 VCCINT (power), G6 GNDINT (power), G7 GNDIO (power), G8 GNDIO (power), G9 GNDIO (power), G10 GNDIO (power), G11 VCCINT (power), H6 VCCIO1 (power), H7 GNDINT (power), H8 VCCINT (power), H9 GNDINT (power), H10 VCCINT (power), H11 VCCIO3 (power), J6 VCCIO1 (power), J7 VCCINT (power), J8 GNDINT (power), J9 VCCINT (power), J10 GNDINT (power), J11 VCCIO3 (power), K6 VCCINT (power), K7 GNDIO (power), K8 GNDIO (power), K9 GNDIO (power), K10 GNDIO (power), K11 GNDINT (power), L7 VCCINT (power), L8 VCCIO4 (power), L9 VCCIO4 (power), L10 GNDINT (power), P1 VCCIO1 (power), P16 VCCIO3 (power), R2 GNDIO (power), R15 GNDIO (power), T1 GNDIO (power), T3 VCCIO4 (power), T6 GNDIO (power), T14 VCCIO4 (power), T16 GNDIO (power)
part A text: BANK 1
part B text: BANK 2
part C text: BANK 3
part D text: BANK 4

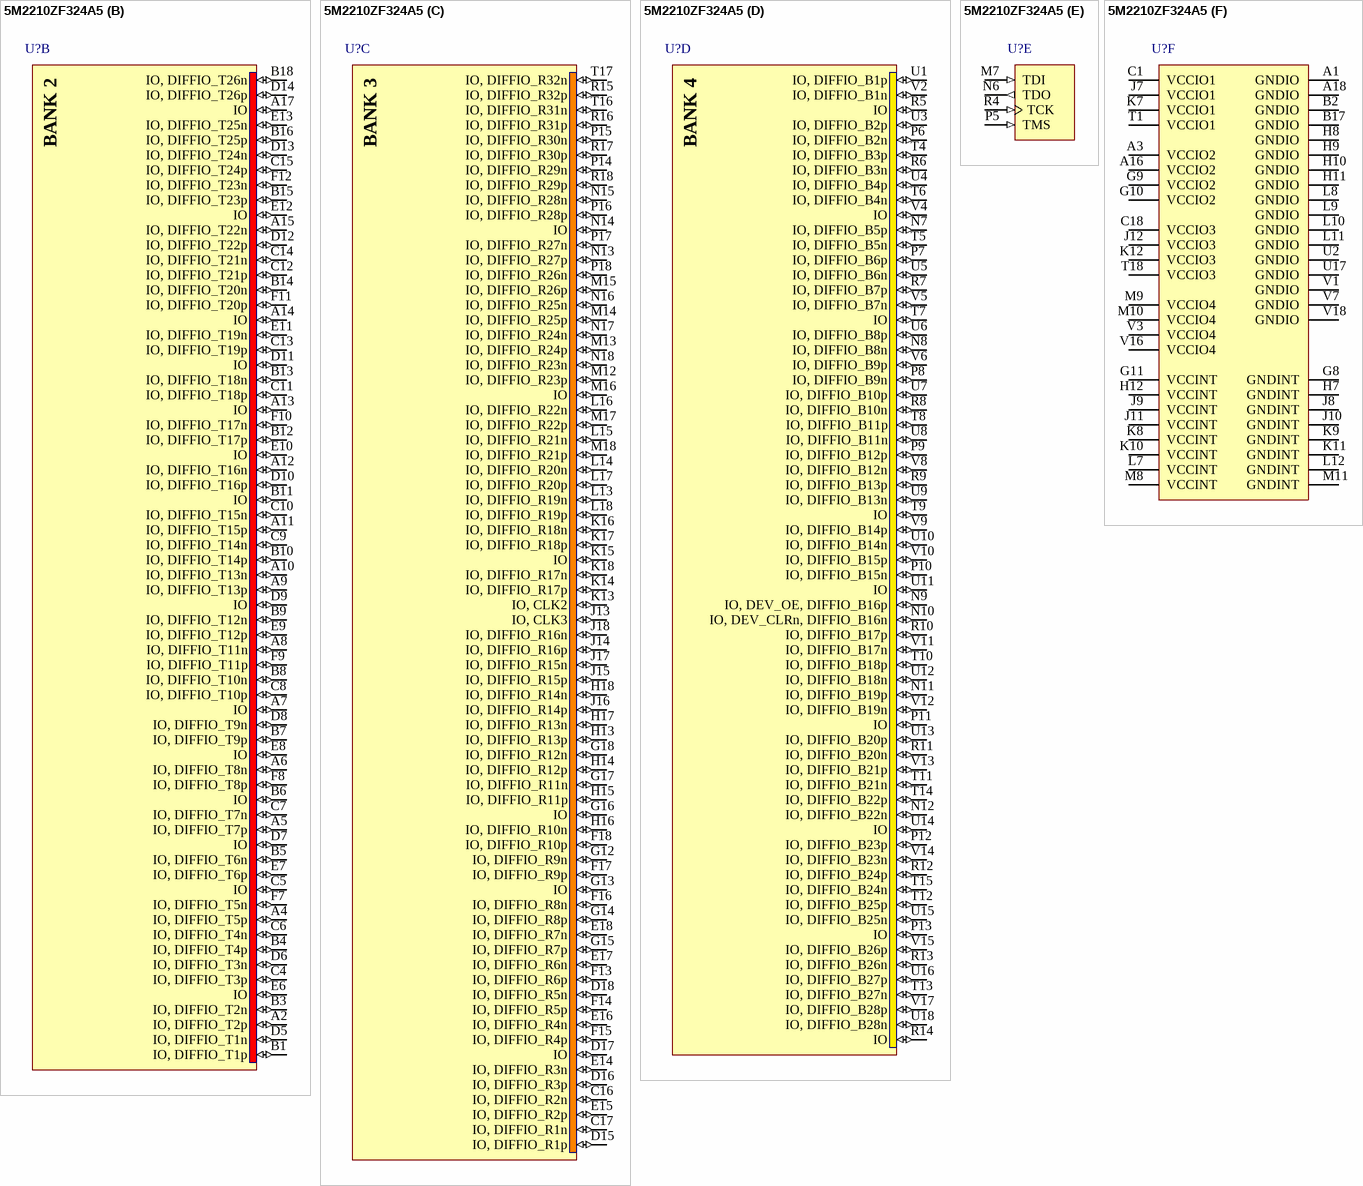
[diagram p70: symbol 5M2210ZF324A5]